# Altium footprint library Altera.PcbLib: 4 footprints (part 2 of 4)
Each footprint in its own frame and in the unit in brackets; x right, y up, seen from the top. Pads: shape width x height; smd on the part's side, far side on the other; paste and mask are expansions set on the pad; w line width, h text height; cw(c..) or ccw(c..) is an arc to the next point about the centre after c.
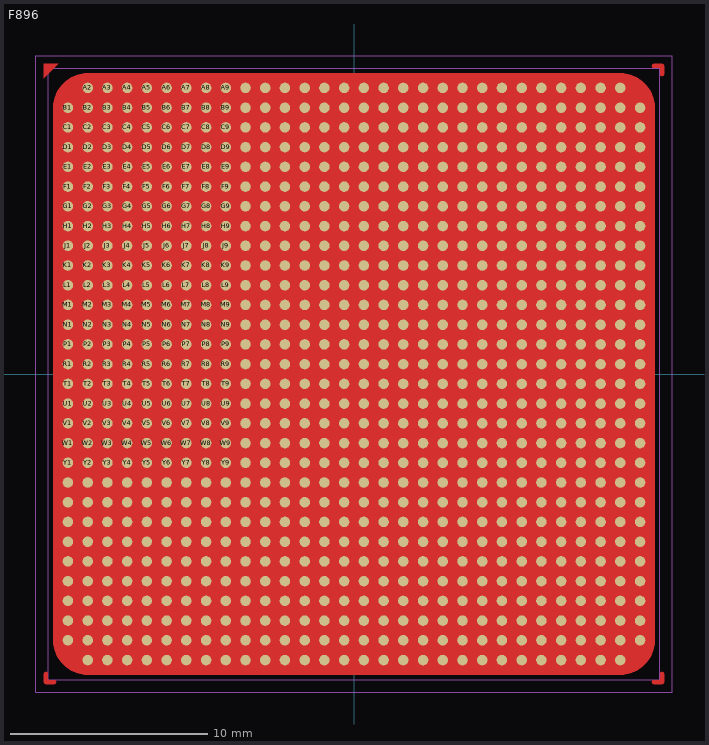
[diagram p1: the footprint, top view; thin cyan lines are the x and y axes]

## F896 [mil]
pads (896):
  round 21 smd mask+2: A2(-531.5,570.87) A3(-492.13,570.87) A4(-452.76,570.87) A5(-413.39,570.87) A6(-374.02,570.87) A7(-334.65,570.87) A8(-295.28,570.87) A9(-255.91,570.87) A10(-216.54,570.87) A11(-177.17,570.87) A12(-137.8,570.87) A13(-98.43,570.87) A14(-59.06,570.87) A15(-19.68,570.87) A16(19.69,570.87) A17(59.06,570.87) A18(98.43,570.87) A19(137.8,570.87) A20(177.17,570.87) A21(216.54,570.87) A22(255.91,570.87) A23(295.28,570.87) A24(334.65,570.87) A25(374.02,570.87) A26(413.39,570.87) A27(452.76,570.87) A28(492.13,570.87) A29(531.5,570.87) AA1(-570.87,-216.54) AA2(-531.5,-216.54) AA3(-492.13,-216.54) AA4(-452.76,-216.54) AA5(-413.39,-216.54) AA6(-374.02,-216.54) AA7(-334.65,-216.54) AA8(-295.28,-216.54) AA9(-255.91,-216.54) AA10(-216.54,-216.54) AA11(-177.17,-216.54) AA12(-137.8,-216.54) AA13(-98.43,-216.54) AA14(-59.06,-216.54) AA15(-19.68,-216.54) AA16(19.69,-216.54) AA17(59.06,-216.54) AA18(98.43,-216.54) AA19(137.8,-216.54) AA20(177.17,-216.54) AA21(216.54,-216.54) AA22(255.91,-216.54) AA23(295.28,-216.54) AA24(334.65,-216.54) AA25(374.02,-216.54) AA26(413.39,-216.54) AA27(452.76,-216.54) AA28(492.13,-216.54) AA29(531.5,-216.54) AA30(570.87,-216.54) AB1(-570.87,-255.91) AB2(-531.5,-255.91) AB3(-492.13,-255.91) AB4(-452.76,-255.91) AB5(-413.39,-255.91) AB6(-374.02,-255.91) AB7(-334.65,-255.91) AB8(-295.28,-255.91) AB9(-255.91,-255.91) AB10(-216.54,-255.91) AB11(-177.17,-255.91) AB12(-137.8,-255.91) AB13(-98.43,-255.91) AB14(-59.06,-255.91) AB15(-19.68,-255.91) AB16(19.69,-255.91) AB17(59.06,-255.91) AB18(98.43,-255.91) AB19(137.8,-255.91) AB20(177.17,-255.91) AB21(216.54,-255.91) AB22(255.91,-255.91) AB23(295.28,-255.91) AB24(334.65,-255.91) AB25(374.02,-255.91) AB26(413.39,-255.91) AB27(452.76,-255.91) AB28(492.13,-255.91) AB29(531.5,-255.91) AB30(570.87,-255.91) AC1(-570.87,-295.28) AC2(-531.5,-295.28) AC3(-492.13,-295.28) AC4(-452.76,-295.28) AC5(-413.39,-295.28) AC6(-374.02,-295.28) AC7(-334.65,-295.28) AC8(-295.28,-295.28) AC9(-255.91,-295.28) AC10(-216.54,-295.28) AC11(-177.17,-295.28) AC12(-137.8,-295.28) AC13(-98.43,-295.28) AC14(-59.06,-295.28) AC15(-19.68,-295.28) AC16(19.69,-295.28) AC17(59.06,-295.28) AC18(98.43,-295.28) AC19(137.8,-295.28) AC20(177.17,-295.28) AC21(216.54,-295.28) AC22(255.91,-295.28) AC23(295.28,-295.28) AC24(334.65,-295.28) AC25(374.02,-295.28) AC26(413.39,-295.28) AC27(452.76,-295.28) AC28(492.13,-295.28) AC29(531.5,-295.28) AC30(570.87,-295.28) AD1(-570.87,-334.65) AD2(-531.5,-334.65) AD3(-492.13,-334.65) AD4(-452.76,-334.65) AD5(-413.39,-334.65) AD6(-374.02,-334.65) AD7(-334.65,-334.65) AD8(-295.28,-334.65) AD9(-255.91,-334.65) AD10(-216.54,-334.65) AD11(-177.17,-334.65) AD12(-137.8,-334.65) AD13(-98.43,-334.65) AD14(-59.06,-334.65) AD15(-19.68,-334.65) AD16(19.69,-334.65) AD17(59.06,-334.65) AD18(98.43,-334.65) AD19(137.8,-334.65) AD20(177.17,-334.65) AD21(216.54,-334.65) AD22(255.91,-334.65) AD23(295.28,-334.65) AD24(334.65,-334.65) AD25(374.02,-334.65) AD26(413.39,-334.65) AD27(452.76,-334.65) AD28(492.13,-334.65) AD29(531.5,-334.65) AD30(570.87,-334.65) AE1(-570.87,-374.02) AE2(-531.5,-374.02) AE3(-492.13,-374.02) AE4(-452.76,-374.02) AE5(-413.39,-374.02) AE6(-374.02,-374.02) AE7(-334.65,-374.02) AE8(-295.28,-374.02) AE9(-255.91,-374.02) AE10(-216.54,-374.02) AE11(-177.17,-374.02) AE12(-137.8,-374.02) AE13(-98.43,-374.02) AE14(-59.06,-374.02) AE15(-19.68,-374.02) AE16(19.69,-374.02) AE17(59.06,-374.02) AE18(98.43,-374.02) AE19(137.8,-374.02) AE20(177.17,-374.02) AE21(216.54,-374.02) AE22(255.91,-374.02) AE23(295.28,-374.02) AE24(334.65,-374.02) AE25(374.02,-374.02) AE26(413.39,-374.02) AE27(452.76,-374.02) AE28(492.13,-374.02) AE29(531.5,-374.02) AE30(570.87,-374.02) AF1(-570.87,-413.39) AF2(-531.5,-413.39) AF3(-492.13,-413.39) AF4(-452.76,-413.39) AF5(-413.39,-413.39) AF6(-374.02,-413.39) AF7(-334.65,-413.39) AF8(-295.28,-413.39) AF9(-255.91,-413.39) AF10(-216.54,-413.39) AF11(-177.17,-413.39) AF12(-137.8,-413.39) AF13(-98.43,-413.39) AF14(-59.06,-413.39) AF15(-19.68,-413.39) AF16(19.69,-413.39) AF17(59.06,-413.39) AF18(98.43,-413.39) AF19(137.8,-413.39) AF20(177.17,-413.39) AF21(216.54,-413.39) AF22(255.91,-413.39) AF23(295.28,-413.39) AF24(334.65,-413.39) AF25(374.02,-413.39) AF26(413.39,-413.39) AF27(452.76,-413.39) AF28(492.13,-413.39) AF29(531.5,-413.39) AF30(570.87,-413.39) AG1(-570.87,-452.76) AG2(-531.5,-452.76) AG3(-492.13,-452.76) AG4(-452.76,-452.76) AG5(-413.39,-452.76) AG6(-374.02,-452.76) AG7(-334.65,-452.76) AG8(-295.28,-452.76) AG9(-255.91,-452.76) AG10(-216.54,-452.76) AG11(-177.17,-452.76) AG12(-137.8,-452.76) AG13(-98.43,-452.76) AG14(-59.06,-452.76) AG15(-19.68,-452.76) AG16(19.69,-452.76) AG17(59.06,-452.76) AG18(98.43,-452.76) AG19(137.8,-452.76) AG20(177.17,-452.76) AG21(216.54,-452.76) AG22(255.91,-452.76) AG23(295.28,-452.76) AG24(334.65,-452.76) AG25(374.02,-452.76) AG26(413.39,-452.76) AG27(452.76,-452.76) AG28(492.13,-452.76) AG29(531.5,-452.76) AG30(570.87,-452.76) AH1(-570.87,-492.13) AH2(-531.5,-492.13) AH3(-492.13,-492.13) AH4(-452.76,-492.13) AH5(-413.39,-492.13) AH6(-374.02,-492.13) AH7(-334.65,-492.13) AH8(-295.28,-492.13) AH9(-255.91,-492.13) AH10(-216.54,-492.13) AH11(-177.17,-492.13) AH12(-137.8,-492.13) AH13(-98.43,-492.13) AH14(-59.06,-492.13) AH15(-19.68,-492.13) AH16(19.69,-492.13) AH17(59.06,-492.13) AH18(98.43,-492.13) AH19(137.8,-492.13) AH20(177.17,-492.13) AH21(216.54,-492.13) AH22(255.91,-492.13) AH23(295.28,-492.13) AH24(334.65,-492.13) AH25(374.02,-492.13) AH26(413.39,-492.13) AH27(452.76,-492.13) AH28(492.13,-492.13) AH29(531.5,-492.13) AH30(570.87,-492.13) AJ1(-570.87,-531.5) AJ2(-531.5,-531.5) AJ3(-492.13,-531.5) AJ4(-452.76,-531.5) AJ5(-413.39,-531.5) AJ6(-374.02,-531.5) AJ7(-334.65,-531.5) AJ8(-295.28,-531.5) AJ9(-255.91,-531.5) AJ10(-216.54,-531.5) AJ11(-177.17,-531.5) AJ12(-137.8,-531.5) AJ13(-98.43,-531.5) AJ14(-59.06,-531.5) AJ15(-19.68,-531.5) AJ16(19.69,-531.5) AJ17(59.06,-531.5) AJ18(98.43,-531.5) AJ19(137.8,-531.5) AJ20(177.17,-531.5) AJ21(216.54,-531.5) AJ22(255.91,-531.5) AJ23(295.28,-531.5) AJ24(334.65,-531.5) AJ25(374.02,-531.5) AJ26(413.39,-531.5) AJ27(452.76,-531.5) AJ28(492.13,-531.5) AJ29(531.5,-531.5) AJ30(570.87,-531.5) AK2(-531.5,-570.87) AK3(-492.13,-570.87) AK4(-452.76,-570.87) AK5(-413.39,-570.87) AK6(-374.02,-570.87) AK7(-334.65,-570.87) AK8(-295.28,-570.87) AK9(-255.91,-570.87) AK10(-216.54,-570.87) AK11(-177.17,-570.87) AK12(-137.8,-570.87) AK13(-98.43,-570.87) AK14(-59.06,-570.87) AK15(-19.68,-570.87) AK16(19.69,-570.87) AK17(59.06,-570.87) AK18(98.43,-570.87) AK19(137.8,-570.87) AK20(177.17,-570.87) AK21(216.54,-570.87) AK22(255.91,-570.87) AK23(295.28,-570.87) AK24(334.65,-570.87) AK25(374.02,-570.87) AK26(413.39,-570.87) AK27(452.76,-570.87) AK28(492.13,-570.87) AK29(531.5,-570.87) B1(-570.87,531.5) B2(-531.5,531.5) B3(-492.13,531.5) B4(-452.76,531.5) B5(-413.39,531.5) B6(-374.02,531.5) B7(-334.65,531.5) B8(-295.28,531.5) B9(-255.91,531.5) B10(-216.54,531.5) B11(-177.17,531.5) B12(-137.8,531.5) B13(-98.43,531.5) B14(-59.06,531.5) B15(-19.68,531.5) B16(19.69,531.5) B17(59.06,531.5) B18(98.43,531.5) B19(137.8,531.5) B20(177.17,531.5) B21(216.54,531.5) B22(255.91,531.5) B23(295.28,531.5) B24(334.65,531.5) B25(374.02,531.5) B26(413.39,531.5) B27(452.76,531.5) B28(492.13,531.5) B29(531.5,531.5) B30(570.87,531.5) C1(-570.87,492.13) C2(-531.5,492.13) C3(-492.13,492.13) C4(-452.76,492.13) C5(-413.39,492.13) C6(-374.02,492.13) C7(-334.65,492.13) C8(-295.28,492.13) C9(-255.91,492.13) C10(-216.54,492.13) C11(-177.17,492.13) C12(-137.8,492.13) C13(-98.43,492.13) C14(-59.06,492.13) C15(-19.68,492.13) C16(19.69,492.13) C17(59.06,492.13) C18(98.43,492.13) C19(137.8,492.13) C20(177.17,492.13) C21(216.54,492.13) C22(255.91,492.13) C23(295.28,492.13) C24(334.65,492.13) C25(374.02,492.13) C26(413.39,492.13) C27(452.76,492.13) C28(492.13,492.13) C29(531.5,492.13) C30(570.87,492.13) D1(-570.87,452.76) D2(-531.5,452.76) D3(-492.13,452.76) D4(-452.76,452.76) D5(-413.39,452.76) D6(-374.02,452.76) D7(-334.65,452.76) D8(-295.28,452.76) D9(-255.91,452.76) D10(-216.54,452.76) D11(-177.17,452.76) D12(-137.8,452.76) D13(-98.43,452.76) D14(-59.06,452.76) D15(-19.68,452.76) D16(19.69,452.76) D17(59.06,452.76) D18(98.43,452.76) D19(137.8,452.76) D20(177.17,452.76) D21(216.54,452.76) D22(255.91,452.76) D23(295.28,452.76) D24(334.65,452.76) D25(374.02,452.76) D26(413.39,452.76) D27(452.76,452.76) D28(492.13,452.76) D29(531.5,452.76) D30(570.87,452.76) E1(-570.87,413.39) E2(-531.5,413.39) E3(-492.13,413.39) E4(-452.76,413.39) E5(-413.39,413.39) E6(-374.02,413.39) E7(-334.65,413.39) E8(-295.28,413.39) E9(-255.91,413.39) E10(-216.54,413.39) E11(-177.17,413.39) E12(-137.8,413.39) E13(-98.43,413.39) E14(-59.06,413.39) E15(-19.68,413.39) E16(19.69,413.39) E17(59.06,413.39) E18(98.43,413.39) E19(137.8,413.39) E20(177.17,413.39) E21(216.54,413.39) E22(255.91,413.39) E23(295.28,413.39) E24(334.65,413.39) E25(374.02,413.39) E26(413.39,413.39) E27(452.76,413.39) E28(492.13,413.39) E29(531.5,413.39) E30(570.87,413.39) F1(-570.87,374.02) F2(-531.5,374.02) F3(-492.13,374.02) F4(-452.76,374.02) F5(-413.39,374.02) F6(-374.02,374.02) F7(-334.65,374.02) F8(-295.28,374.02) F9(-255.91,374.02) F10(-216.54,374.02) F11(-177.17,374.02) F12(-137.8,374.02) F13(-98.43,374.02) F14(-59.06,374.02) F15(-19.68,374.02) F16(19.69,374.02) F17(59.06,374.02) F18(98.43,374.02) F19(137.8,374.02) F20(177.17,374.02) F21(216.54,374.02) F22(255.91,374.02) F23(295.28,374.02) F24(334.65,374.02) F25(374.02,374.02) F26(413.39,374.02) F27(452.76,374.02) F28(492.13,374.02) F29(531.5,374.02) F30(570.87,374.02) G1(-570.87,334.65) G2(-531.5,334.65) G3(-492.13,334.65) G4(-452.76,334.65) G5(-413.39,334.65) G6(-374.02,334.65) G7(-334.65,334.65) G8(-295.28,334.65) G9(-255.91,334.65) G10(-216.54,334.65) G11(-177.17,334.65) G12(-137.8,334.65) G13(-98.43,334.65) G14(-59.06,334.65) G15(-19.68,334.65) G16(19.69,334.65) G17(59.06,334.65) G18(98.43,334.65) G19(137.8,334.65) G20(177.17,334.65) G21(216.54,334.65) G22(255.91,334.65) G23(295.28,334.65) G24(334.65,334.65) G25(374.02,334.65) G26(413.39,334.65) G27(452.76,334.65) G28(492.13,334.65) G29(531.5,334.65) G30(570.87,334.65) H1(-570.87,295.28) H2(-531.5,295.28) H3(-492.13,295.28) H4(-452.76,295.28) H5(-413.39,295.28) H6(-374.02,295.28) H7(-334.65,295.28) H8(-295.28,295.28) H9(-255.91,295.28) H10(-216.54,295.28) H11(-177.17,295.28) H12(-137.8,295.28) H13(-98.43,295.28) H14(-59.06,295.28) H15(-19.68,295.28) H16(19.69,295.28) H17(59.06,295.28) H18(98.43,295.28) H19(137.8,295.28) H20(177.17,295.28) H21(216.54,295.28) H22(255.91,295.28) H23(295.28,295.28) H24(334.65,295.28) H25(374.02,295.28) H26(413.39,295.28) H27(452.76,295.28) H28(492.13,295.28) H29(531.5,295.28) H30(570.87,295.28) J1(-570.87,255.91) J2(-531.5,255.91) J3(-492.13,255.91) J4(-452.76,255.91) J5(-413.39,255.91) J6(-374.02,255.91) J7(-334.65,255.91) J8(-295.28,255.91) J9(-255.91,255.91) J10(-216.54,255.91) J11(-177.17,255.91) J12(-137.8,255.91) J13(-98.43,255.91) J14(-59.06,255.91) J15(-19.68,255.91) J16(19.69,255.91) J17(59.06,255.91) J18(98.43,255.91) J19(137.8,255.91) J20(177.17,255.91) J21(216.54,255.91) J22(255.91,255.91) J23(295.28,255.91) J24(334.65,255.91) J25(374.02,255.91) J26(413.39,255.91) J27(452.76,255.91) J28(492.13,255.91) J29(531.5,255.91) J30(570.87,255.91) K1(-570.87,216.54) K2(-531.5,216.54) K3(-492.13,216.54) K4(-452.76,216.54) K5(-413.39,216.54) K6(-374.02,216.54) K7(-334.65,216.54) K8(-295.28,216.54) K9(-255.91,216.54) K10(-216.54,216.54) K11(-177.17,216.54) K12(-137.8,216.54) K13(-98.43,216.54) K14(-59.06,216.54) K15(-19.68,216.54) K16(19.69,216.54) K17(59.06,216.54) K18(98.43,216.54) K19(137.8,216.54) K20(177.17,216.54) K21(216.54,216.54) K22(255.91,216.54) K23(295.28,216.54) K24(334.65,216.54) K25(374.02,216.54) K26(413.39,216.54) K27(452.76,216.54) K28(492.13,216.54) K29(531.5,216.54) K30(570.87,216.54) L1(-570.87,177.17) L2(-531.5,177.17) L3(-492.13,177.17) L4(-452.76,177.17) L5(-413.39,177.17) L6(-374.02,177.17) L7(-334.65,177.17) L8(-295.28,177.17) L9(-255.91,177.17) L10(-216.54,177.17) L11(-177.17,177.17) L12(-137.8,177.17) L13(-98.43,177.17) L14(-59.06,177.17) L15(-19.68,177.17) L16(19.69,177.17) L17(59.06,177.17) L18(98.43,177.17) L19(137.8,177.17) L20(177.17,177.17) L21(216.54,177.17) L22(255.91,177.17) L23(295.28,177.17) L24(334.65,177.17) L25(374.02,177.17) L26(413.39,177.17) L27(452.76,177.17) L28(492.13,177.17) L29(531.5,177.17) L30(570.87,177.17) M1(-570.87,137.8) M2(-531.5,137.8) M3(-492.13,137.8) M4(-452.76,137.8) M5(-413.39,137.8) M6(-374.02,137.8) M7(-334.65,137.8) M8(-295.28,137.8) M9(-255.91,137.8) M10(-216.54,137.8) M11(-177.17,137.8) M12(-137.8,137.8) M13(-98.43,137.8) M14(-59.06,137.8) M15(-19.68,137.8) M16(19.69,137.8) M17(59.06,137.8) M18(98.43,137.8) M19(137.8,137.8) M20(177.17,137.8) M21(216.54,137.8) M22(255.91,137.8) M23(295.28,137.8) M24(334.65,137.8) M25(374.02,137.8) M26(413.39,137.8) M27(452.76,137.8) M28(492.13,137.8) M29(531.5,137.8) M30(570.87,137.8) N1(-570.87,98.43) N2(-531.5,98.43) N3(-492.13,98.43) N4(-452.76,98.43) N5(-413.39,98.43) N6(-374.02,98.43) N7(-334.65,98.43) N8(-295.28,98.43) N9(-255.91,98.43) N10(-216.54,98.43) N11(-177.17,98.43) N12(-137.8,98.43) N13(-98.43,98.43) N14(-59.06,98.43) N15(-19.68,98.43) N16(19.69,98.43) N17(59.06,98.43) N18(98.43,98.43) N19(137.8,98.43) N20(177.17,98.43) N21(216.54,98.43) N22(255.91,98.43) N23(295.28,98.43) N24(334.65,98.43) N25(374.02,98.43) N26(413.39,98.43) N27(452.76,98.43) N28(492.13,98.43) N29(531.5,98.43) N30(570.87,98.43) P1(-570.87,59.06) P2(-531.5,59.06) P3(-492.13,59.06) P4(-452.76,59.06) P5(-413.39,59.06) P6(-374.02,59.06) P7(-334.65,59.06) P8(-295.28,59.06) P9(-255.91,59.06) P10(-216.54,59.06) P11(-177.17,59.06) P12(-137.8,59.06) P13(-98.43,59.06) P14(-59.06,59.06) P15(-19.68,59.06) P16(19.69,59.06) P17(59.06,59.06) P18(98.43,59.06) P19(137.8,59.06) P20(177.17,59.06) P21(216.54,59.06) P22(255.91,59.06) P23(295.28,59.06) P24(334.65,59.06) P25(374.02,59.06) P26(413.39,59.06) P27(452.76,59.06) P28(492.13,59.06) P29(531.5,59.06) P30(570.87,59.06) R1(-570.87,19.69) R2(-531.5,19.69) R3(-492.13,19.69) R4(-452.76,19.69) R5(-413.39,19.69) R6(-374.02,19.69) R7(-334.65,19.69) R8(-295.28,19.69) R9(-255.91,19.69) R10(-216.54,19.69) R11(-177.17,19.69) R12(-137.8,19.69) R13(-98.43,19.69) R14(-59.06,19.69) R15(-19.68,19.69) R16(19.69,19.69) R17(59.06,19.69) R18(98.43,19.69) R19(137.8,19.69) R20(177.17,19.69) R21(216.54,19.69) R22(255.91,19.69) R23(295.28,19.69) R24(334.65,19.69) R25(374.02,19.69) R26(413.39,19.69) R27(452.76,19.69) R28(492.13,19.69) R29(531.5,19.69) R30(570.87,19.69) T1(-570.87,-19.68) T2(-531.5,-19.68) T3(-492.13,-19.68) T4(-452.76,-19.68) T5(-413.39,-19.68) T6(-374.02,-19.68) T7(-334.65,-19.68) T8(-295.28,-19.68) T9(-255.91,-19.68) T10(-216.54,-19.68) T11(-177.17,-19.68) T12(-137.8,-19.68) T13(-98.43,-19.68) T14(-59.06,-19.68) T15(-19.68,-19.68) T16(19.69,-19.68) T17(59.06,-19.68) T18(98.43,-19.68) T19(137.8,-19.68) T20(177.17,-19.68) T21(216.54,-19.68) T22(255.91,-19.68) T23(295.28,-19.68) T24(334.65,-19.68) T25(374.02,-19.68) T26(413.39,-19.68) T27(452.76,-19.68) T28(492.13,-19.68) T29(531.5,-19.68) T30(570.87,-19.68) U1(-570.87,-59.06) U2(-531.5,-59.06) U3(-492.13,-59.06) U4(-452.76,-59.06) U5(-413.39,-59.06) U6(-374.02,-59.06) U7(-334.65,-59.06) U8(-295.28,-59.06) U9(-255.91,-59.06) U10(-216.54,-59.06) U11(-177.17,-59.06) U12(-137.8,-59.06) U13(-98.43,-59.06) U14(-59.06,-59.06) U15(-19.68,-59.06) U16(19.69,-59.06) U17(59.06,-59.06) U18(98.43,-59.06) U19(137.8,-59.06) U20(177.17,-59.06) U21(216.54,-59.06) U22(255.91,-59.06) U23(295.28,-59.06) U24(334.65,-59.06) U25(374.02,-59.06) U26(413.39,-59.06) U27(452.76,-59.06) U28(492.13,-59.06) U29(531.5,-59.06) U30(570.87,-59.06) V1(-570.87,-98.43) V2(-531.5,-98.43) V3(-492.13,-98.43) V4(-452.76,-98.43) V5(-413.39,-98.43) V6(-374.02,-98.43) V7(-334.65,-98.43) V8(-295.28,-98.43) V9(-255.91,-98.43) V10(-216.54,-98.43) V11(-177.17,-98.43) V12(-137.8,-98.43) V13(-98.43,-98.43) V14(-59.06,-98.43) V15(-19.68,-98.43) V16(19.69,-98.43) V17(59.06,-98.43) V18(98.43,-98.43) V19(137.8,-98.43) V20(177.17,-98.43) V21(216.54,-98.43) V22(255.91,-98.43) V23(295.28,-98.43) V24(334.65,-98.43) V25(374.02,-98.43) V26(413.39,-98.43) V27(452.76,-98.43) V28(492.13,-98.43) V29(531.5,-98.43) V30(570.87,-98.43) W1(-570.87,-137.8) W2(-531.5,-137.8) W3(-492.13,-137.8) W4(-452.76,-137.8) W5(-413.39,-137.8) W6(-374.02,-137.8) W7(-334.65,-137.8) W8(-295.28,-137.8) W9(-255.91,-137.8) W10(-216.54,-137.8) W11(-177.17,-137.8) W12(-137.8,-137.8) W13(-98.43,-137.8) W14(-59.06,-137.8) W15(-19.68,-137.8) W16(19.69,-137.8) W17(59.06,-137.8) W18(98.43,-137.8) W19(137.8,-137.8) W20(177.17,-137.8) W21(216.54,-137.8) W22(255.91,-137.8) W23(295.28,-137.8) W24(334.65,-137.8) W25(374.02,-137.8) W26(413.39,-137.8) W27(452.76,-137.8) W28(492.13,-137.8) W29(531.5,-137.8) W30(570.87,-137.8) Y1(-570.87,-177.17) Y2(-531.5,-177.17) Y3(-492.13,-177.17) Y4(-452.76,-177.17) Y5(-413.39,-177.17) Y6(-374.02,-177.17) Y7(-334.65,-177.17) Y8(-295.28,-177.17) Y9(-255.91,-177.17) Y10(-216.54,-177.17) Y11(-177.17,-177.17) Y12(-137.8,-177.17) Y13(-98.43,-177.17) Y14(-59.06,-177.17) Y15(-19.68,-177.17) Y16(19.69,-177.17) Y17(59.06,-177.17) Y18(98.43,-177.17) Y19(137.8,-177.17) Y20(177.17,-177.17) Y21(216.54,-177.17) Y22(255.91,-177.17) Y23(295.28,-177.17) Y24(334.65,-177.17) Y25(374.02,-177.17) Y26(413.39,-177.17) Y27(452.76,-177.17) Y28(492.13,-177.17) Y29(531.5,-177.17) Y30(570.87,-177.17)
Top Layer:
  pour cut-out: -531.5,600 -538.24,600 -551.48,597.37 -563.94,592.2 -575.16,584.71 -584.71,575.16 -592.2,563.94 -597.37,551.48 -600,538.24 -600,531.5 -600,-531.5 -600,-538.24 -597.37,-551.48 -592.2,-563.94 -584.71,-575.16 -575.16,-584.71 -563.94,-592.2 -551.48,-597.37 -538.24,-600 -531.5,-600 531.5,-600 538.24,-600 551.48,-597.37 563.94,-592.2 575.16,-584.71 584.71,-575.16 592.2,-563.94 597.37,-551.48 600,-538.24 600,-531.5 600,531.5 600,538.24 597.37,551.48 592.2,563.94 584.71,575.16 575.16,584.71 563.94,592.2 551.48,597.37 538.24,600 531.5,600
  region: -618.7,618.7 -618.7,590.16 -590.16,618.7
  region: 610.7,598.7 610.7,597.91 611.31,596.43 612.43,595.31 613.9,594.7 614.7,594.7 615.5,594.7 616.97,595.31 618.09,596.43 618.7,597.91 618.7,598.7 618.7,614.7 618.7,615.5 618.09,616.97 616.97,618.09 615.5,618.7 614.7,618.7 598.7,618.7 597.9,618.7 596.43,618.09 595.31,616.97 594.7,615.5 594.7,614.7 594.7,613.91 595.31,612.43 596.43,611.31 597.9,610.7 598.7,610.7 608.7,610.7 609.09,610.66 609.81,610.36 610.36,609.81 610.66,609.09 610.7,608.7
  region: 598.7,-610.7 597.91,-610.7 596.43,-611.31 595.31,-612.43 594.7,-613.9 594.7,-614.7 594.7,-615.5 595.31,-616.97 596.43,-618.09 597.91,-618.7 598.7,-618.7 614.7,-618.7 615.5,-618.7 616.97,-618.09 618.09,-616.97 618.7,-615.5 618.7,-614.7 618.7,-598.7 618.7,-597.9 618.09,-596.43 616.97,-595.31 615.5,-594.7 614.7,-594.7 613.91,-594.7 612.43,-595.31 611.31,-596.43 610.7,-597.9 610.7,-598.7 610.7,-608.7 610.66,-609.09 610.36,-609.81 609.81,-610.36 609.09,-610.66 608.7,-610.7
  region: -610.7,-598.7 -610.7,-597.91 -611.31,-596.43 -612.43,-595.31 -613.9,-594.7 -614.7,-594.7 -615.5,-594.7 -616.97,-595.31 -618.09,-596.43 -618.7,-597.91 -618.7,-598.7 -618.7,-614.7 -618.7,-615.5 -618.09,-616.97 -616.97,-618.09 -615.5,-618.7 -614.7,-618.7 -598.7,-618.7 -597.9,-618.7 -596.43,-618.09 -595.31,-616.97 -594.7,-615.5 -594.7,-614.7 -594.7,-613.91 -595.31,-612.43 -596.43,-611.31 -597.9,-610.7 -598.7,-610.7 -608.7,-610.7 -609.09,-610.66 -609.81,-610.36 -610.36,-609.81 -610.66,-609.09 -610.7,-608.7
Top Component Outline:
  lines w1: -635,-635 635,-635 635,635 -635,635 -635,-635
Top 3D Body (Mech16):
  lines w1: -543.22,582.68 -543.22,582.67 ; -543.22,582.67 543.22,582.68 582.59,543.31 582.59,-543.31 543.22,-582.68 -543.22,-582.68 -582.59,-543.31 -582.59,543.3 -543.22,582.67 ; -610.24,-610.24 610.24,-610.24 610.24,610.24 -610.24,610.24 -610.24,-610.24
3D body: height 40, standoff 35, extent -600,570 -570,600
3D body: height 21.81, standoff -1.81, extent -267.63,-582.68 -244.18,-559.06
3D body: height 21.81, standoff -1.81, extent -307,-582.68 -283.55,-559.06
3D body: height 21.81, standoff -1.81, extent -346.37,-582.68 -322.92,-559.06
3D body: height 21.81, standoff -1.81, extent -385.74,-582.68 -362.29,-559.06
3D body: height 21.81, standoff -1.81, extent -425.11,-582.68 -401.66,-559.06
3D body: height 21.81, standoff -1.81, extent -464.48,-582.68 -441.03,-559.06
3D body: height 21.81, standoff -1.81, extent -503.85,-582.68 -480.4,-559.06
3D body: height 21.81, standoff -1.81, extent -543.22,-582.68 -519.77,-559.06
3D body: height 21.81, standoff -1.81, extent 86.7,-582.68 110.15,-559.06
3D body: height 21.81, standoff -1.81, extent 47.33,-582.68 70.78,-559.06
3D body: height 21.81, standoff -1.81, extent 7.96,-582.68 31.41,-559.06
3D body: height 21.81, standoff -1.81, extent -31.41,-582.68 -7.96,-559.06
3D body: height 21.81, standoff -1.81, extent -70.78,-582.68 -47.33,-559.06
3D body: height 21.81, standoff -1.81, extent -110.15,-582.68 -86.7,-559.06
3D body: height 21.81, standoff -1.81, extent -149.52,-582.68 -126.07,-559.06
3D body: height 21.81, standoff -1.81, extent -188.89,-582.68 -165.44,-559.06
3D body: height 21.81, standoff -1.81, extent -228.26,-582.68 -204.81,-559.06
3D body: height 21.81, standoff -1.81, extent 441.03,-582.68 464.48,-559.06
3D body: height 21.81, standoff -1.81, extent 401.66,-582.68 425.11,-559.06
3D body: height 21.81, standoff -1.81, extent 362.29,-582.68 385.74,-559.06
3D body: height 21.81, standoff -1.81, extent 322.92,-582.68 346.37,-559.06
3D body: height 21.81, standoff -1.81, extent 283.55,-582.68 307,-559.06
3D body: height 21.81, standoff -1.81, extent 244.18,-582.68 267.63,-559.06
3D body: height 21.81, standoff -1.81, extent 204.81,-582.68 228.26,-559.06
3D body: height 21.81, standoff -1.81, extent 165.44,-582.68 188.89,-559.06
3D body: height 21.81, standoff -1.81, extent 126.07,-582.68 149.52,-559.06
3D body: height 21.81, standoff -1.81, extent 519.77,-582.68 543.22,-559.06
3D body: height 21.81, standoff -1.81, extent 480.4,-582.68 503.85,-559.06
3D body: height 21.81, standoff -1.81, extent -267.63,-543.31 -244.18,-519.69
3D body: height 21.81, standoff -1.81, extent -307,-543.31 -283.55,-519.69
3D body: height 21.81, standoff -1.81, extent -346.37,-543.31 -322.92,-519.69
3D body: height 21.81, standoff -1.81, extent -385.74,-543.31 -362.29,-519.69
3D body: height 21.81, standoff -1.81, extent -425.11,-543.31 -401.66,-519.69
3D body: height 21.81, standoff -1.81, extent -464.48,-543.31 -441.03,-519.69
3D body: height 21.81, standoff -1.81, extent -503.85,-543.31 -480.4,-519.69
3D body: height 21.81, standoff -1.81, extent -543.22,-543.31 -519.77,-519.69
3D body: height 21.81, standoff -1.81, extent -582.59,-543.31 -559.14,-519.69
3D body: height 21.81, standoff -1.81, extent 86.7,-543.31 110.15,-519.69
3D body: height 21.81, standoff -1.81, extent 47.33,-543.31 70.78,-519.69
3D body: height 21.81, standoff -1.81, extent 7.96,-543.31 31.41,-519.69
3D body: height 21.81, standoff -1.81, extent -31.41,-543.31 -7.96,-519.69
3D body: height 21.81, standoff -1.81, extent -70.78,-543.31 -47.33,-519.69
3D body: height 21.81, standoff -1.81, extent -110.15,-543.31 -86.7,-519.69
3D body: height 21.81, standoff -1.81, extent -149.52,-543.31 -126.07,-519.69
3D body: height 21.81, standoff -1.81, extent -188.89,-543.31 -165.44,-519.69
3D body: height 21.81, standoff -1.81, extent -228.26,-543.31 -204.81,-519.69
3D body: height 21.81, standoff -1.81, extent 441.03,-543.31 464.48,-519.69
3D body: height 21.81, standoff -1.81, extent 401.66,-543.31 425.11,-519.69
3D body: height 21.81, standoff -1.81, extent 362.29,-543.31 385.74,-519.69
3D body: height 21.81, standoff -1.81, extent 322.92,-543.31 346.37,-519.69
3D body: height 21.81, standoff -1.81, extent 283.55,-543.31 307,-519.69
3D body: height 21.81, standoff -1.81, extent 244.18,-543.31 267.63,-519.69
3D body: height 21.81, standoff -1.81, extent 204.81,-543.31 228.26,-519.69
3D body: height 21.81, standoff -1.81, extent 165.44,-543.31 188.89,-519.69
3D body: height 21.81, standoff -1.81, extent 126.07,-543.31 149.52,-519.69
3D body: height 21.81, standoff -1.81, extent 559.14,-543.31 582.59,-519.69
3D body: height 21.81, standoff -1.81, extent 519.77,-543.31 543.22,-519.69
3D body: height 21.81, standoff -1.81, extent 480.4,-543.31 503.85,-519.69
3D body: height 21.81, standoff -1.81, extent -267.63,-503.94 -244.18,-480.32
3D body: height 21.81, standoff -1.81, extent -307,-503.94 -283.55,-480.32
3D body: height 21.81, standoff -1.81, extent -346.37,-503.94 -322.92,-480.32
3D body: height 21.81, standoff -1.81, extent -385.74,-503.94 -362.29,-480.32
3D body: height 21.81, standoff -1.81, extent -425.11,-503.94 -401.66,-480.32
3D body: height 21.81, standoff -1.81, extent -464.48,-503.94 -441.03,-480.32
3D body: height 21.81, standoff -1.81, extent -503.85,-503.94 -480.4,-480.32
3D body: height 21.81, standoff -1.81, extent -543.22,-503.94 -519.77,-480.32
3D body: height 21.81, standoff -1.81, extent -582.59,-503.94 -559.14,-480.32
3D body: height 21.81, standoff -1.81, extent 86.7,-503.94 110.15,-480.32
3D body: height 21.81, standoff -1.81, extent 47.33,-503.94 70.78,-480.32
3D body: height 21.81, standoff -1.81, extent 7.96,-503.94 31.41,-480.32
3D body: height 21.81, standoff -1.81, extent -31.41,-503.94 -7.96,-480.32
3D body: height 21.81, standoff -1.81, extent -70.78,-503.94 -47.33,-480.32
3D body: height 21.81, standoff -1.81, extent -110.15,-503.94 -86.7,-480.32
3D body: height 21.81, standoff -1.81, extent -149.52,-503.94 -126.07,-480.32
3D body: height 21.81, standoff -1.81, extent -188.89,-503.94 -165.44,-480.32
3D body: height 21.81, standoff -1.81, extent -228.26,-503.94 -204.81,-480.32
3D body: height 21.81, standoff -1.81, extent 441.03,-503.94 464.48,-480.32
3D body: height 21.81, standoff -1.81, extent 401.66,-503.94 425.11,-480.32
3D body: height 21.81, standoff -1.81, extent 362.29,-503.94 385.74,-480.32
3D body: height 21.81, standoff -1.81, extent 322.92,-503.94 346.37,-480.32
3D body: height 21.81, standoff -1.81, extent 283.55,-503.94 307,-480.32
3D body: height 21.81, standoff -1.81, extent 244.18,-503.94 267.63,-480.32
3D body: height 21.81, standoff -1.81, extent 204.81,-503.94 228.26,-480.32
3D body: height 21.81, standoff -1.81, extent 165.44,-503.94 188.89,-480.32
3D body: height 21.81, standoff -1.81, extent 126.07,-503.94 149.52,-480.32
3D body: height 21.81, standoff -1.81, extent 559.14,-503.94 582.59,-480.32
3D body: height 21.81, standoff -1.81, extent 519.77,-503.94 543.22,-480.32
3D body: height 21.81, standoff -1.81, extent 480.4,-503.94 503.85,-480.32
3D body: height 21.81, standoff -1.81, extent -267.63,-464.57 -244.18,-440.95
3D body: height 21.81, standoff -1.81, extent -307,-464.57 -283.55,-440.95
3D body: height 21.81, standoff -1.81, extent -346.37,-464.57 -322.92,-440.95
3D body: height 21.81, standoff -1.81, extent -385.74,-464.57 -362.29,-440.95
3D body: height 21.81, standoff -1.81, extent -425.11,-464.57 -401.66,-440.95
3D body: height 21.81, standoff -1.81, extent -464.48,-464.57 -441.03,-440.95
3D body: height 21.81, standoff -1.81, extent -503.85,-464.57 -480.4,-440.95
3D body: height 21.81, standoff -1.81, extent -543.22,-464.57 -519.77,-440.95
3D body: height 21.81, standoff -1.81, extent -582.59,-464.57 -559.14,-440.95
3D body: height 21.81, standoff -1.81, extent 86.7,-464.57 110.15,-440.95
3D body: height 21.81, standoff -1.81, extent 47.33,-464.57 70.78,-440.95
3D body: height 21.81, standoff -1.81, extent 7.96,-464.57 31.41,-440.95
3D body: height 21.81, standoff -1.81, extent -31.41,-464.57 -7.96,-440.95
3D body: height 21.81, standoff -1.81, extent -70.78,-464.57 -47.33,-440.95
3D body: height 21.81, standoff -1.81, extent -110.15,-464.57 -86.7,-440.95
3D body: height 21.81, standoff -1.81, extent -149.52,-464.57 -126.07,-440.95
3D body: height 21.81, standoff -1.81, extent -188.89,-464.57 -165.44,-440.95
3D body: height 21.81, standoff -1.81, extent -228.26,-464.57 -204.81,-440.95
3D body: height 21.81, standoff -1.81, extent 441.03,-464.57 464.48,-440.95
3D body: height 21.81, standoff -1.81, extent 401.66,-464.57 425.11,-440.95
3D body: height 21.81, standoff -1.81, extent 362.29,-464.57 385.74,-440.95
3D body: height 21.81, standoff -1.81, extent 322.92,-464.57 346.37,-440.95
3D body: height 21.81, standoff -1.81, extent 283.55,-464.57 307,-440.95
3D body: height 21.81, standoff -1.81, extent 244.18,-464.57 267.63,-440.95
3D body: height 21.81, standoff -1.81, extent 204.81,-464.57 228.26,-440.95
3D body: height 21.81, standoff -1.81, extent 165.44,-464.57 188.89,-440.95
3D body: height 21.81, standoff -1.81, extent 126.07,-464.57 149.52,-440.95
3D body: height 21.81, standoff -1.81, extent 559.14,-464.57 582.59,-440.95
3D body: height 21.81, standoff -1.81, extent 519.77,-464.57 543.22,-440.95
3D body: height 21.81, standoff -1.81, extent 480.4,-464.57 503.85,-440.95
3D body: height 21.81, standoff -1.81, extent -267.63,-425.2 -244.18,-401.58
3D body: height 21.81, standoff -1.81, extent -307,-425.2 -283.55,-401.58
3D body: height 21.81, standoff -1.81, extent -346.37,-425.2 -322.92,-401.58
3D body: height 21.81, standoff -1.81, extent -385.74,-425.2 -362.29,-401.58
3D body: height 21.81, standoff -1.81, extent -425.11,-425.2 -401.66,-401.58
3D body: height 21.81, standoff -1.81, extent -464.48,-425.2 -441.03,-401.58
3D body: height 21.81, standoff -1.81, extent -503.85,-425.2 -480.4,-401.58
3D body: height 21.81, standoff -1.81, extent -543.22,-425.2 -519.77,-401.58
3D body: height 21.81, standoff -1.81, extent -582.59,-425.2 -559.14,-401.58
3D body: height 21.81, standoff -1.81, extent 86.7,-425.2 110.15,-401.58
3D body: height 21.81, standoff -1.81, extent 47.33,-425.2 70.78,-401.58
3D body: height 21.81, standoff -1.81, extent 7.96,-425.2 31.41,-401.58
3D body: height 21.81, standoff -1.81, extent -31.41,-425.2 -7.96,-401.58
3D body: height 21.81, standoff -1.81, extent -70.78,-425.2 -47.33,-401.58
3D body: height 21.81, standoff -1.81, extent -110.15,-425.2 -86.7,-401.58
3D body: height 21.81, standoff -1.81, extent -149.52,-425.2 -126.07,-401.58
3D body: height 21.81, standoff -1.81, extent -188.89,-425.2 -165.44,-401.58
3D body: height 21.81, standoff -1.81, extent -228.26,-425.2 -204.81,-401.58
3D body: height 21.81, standoff -1.81, extent 441.03,-425.2 464.48,-401.58
3D body: height 21.81, standoff -1.81, extent 401.66,-425.2 425.11,-401.58
3D body: height 21.81, standoff -1.81, extent 362.29,-425.2 385.74,-401.58
3D body: height 21.81, standoff -1.81, extent 322.92,-425.2 346.37,-401.58
3D body: height 21.81, standoff -1.81, extent 283.55,-425.2 307,-401.58
3D body: height 21.81, standoff -1.81, extent 244.18,-425.2 267.63,-401.58
3D body: height 21.81, standoff -1.81, extent 204.81,-425.2 228.26,-401.58
3D body: height 21.81, standoff -1.81, extent 165.44,-425.2 188.89,-401.58
3D body: height 21.81, standoff -1.81, extent 126.07,-425.2 149.52,-401.58
3D body: height 21.81, standoff -1.81, extent 559.14,-425.2 582.59,-401.58
3D body: height 21.81, standoff -1.81, extent 519.77,-425.2 543.22,-401.58
3D body: height 21.81, standoff -1.81, extent 480.4,-425.2 503.85,-401.58
3D body: height 21.81, standoff -1.81, extent -267.63,-385.83 -244.18,-362.21
3D body: height 21.81, standoff -1.81, extent -307,-385.83 -283.55,-362.21
3D body: height 21.81, standoff -1.81, extent -346.37,-385.83 -322.92,-362.21
3D body: height 21.81, standoff -1.81, extent -385.74,-385.83 -362.29,-362.21
3D body: height 21.81, standoff -1.81, extent -425.11,-385.83 -401.66,-362.21
3D body: height 21.81, standoff -1.81, extent -464.48,-385.83 -441.03,-362.21
3D body: height 21.81, standoff -1.81, extent -503.85,-385.83 -480.4,-362.21
3D body: height 21.81, standoff -1.81, extent -543.22,-385.83 -519.77,-362.21
3D body: height 21.81, standoff -1.81, extent -582.59,-385.83 -559.14,-362.21
3D body: height 21.81, standoff -1.81, extent 86.7,-385.83 110.15,-362.21
3D body: height 21.81, standoff -1.81, extent 47.33,-385.83 70.78,-362.21
3D body: height 21.81, standoff -1.81, extent 7.96,-385.83 31.41,-362.21
3D body: height 21.81, standoff -1.81, extent -31.41,-385.83 -7.96,-362.21
3D body: height 21.81, standoff -1.81, extent -70.78,-385.83 -47.33,-362.21
3D body: height 21.81, standoff -1.81, extent -110.15,-385.83 -86.7,-362.21
3D body: height 21.81, standoff -1.81, extent -149.52,-385.83 -126.07,-362.21
3D body: height 21.81, standoff -1.81, extent -188.89,-385.83 -165.44,-362.21
3D body: height 21.81, standoff -1.81, extent -228.26,-385.83 -204.81,-362.21
3D body: height 21.81, standoff -1.81, extent 441.03,-385.83 464.48,-362.21
3D body: height 21.81, standoff -1.81, extent 401.66,-385.83 425.11,-362.21
3D body: height 21.81, standoff -1.81, extent 362.29,-385.83 385.74,-362.21
3D body: height 21.81, standoff -1.81, extent 322.92,-385.83 346.37,-362.21
3D body: height 21.81, standoff -1.81, extent 283.55,-385.83 307,-362.21
3D body: height 21.81, standoff -1.81, extent 244.18,-385.83 267.63,-362.21
3D body: height 21.81, standoff -1.81, extent 204.81,-385.83 228.26,-362.21
3D body: height 21.81, standoff -1.81, extent 165.44,-385.83 188.89,-362.21
3D body: height 21.81, standoff -1.81, extent 126.07,-385.83 149.52,-362.21
3D body: height 21.81, standoff -1.81, extent 559.14,-385.83 582.59,-362.21
3D body: height 21.81, standoff -1.81, extent 519.77,-385.83 543.22,-362.21
3D body: height 21.81, standoff -1.81, extent 480.4,-385.83 503.85,-362.21
3D body: height 21.81, standoff -1.81, extent -267.63,-346.46 -244.18,-322.84
3D body: height 21.81, standoff -1.81, extent -307,-346.46 -283.55,-322.84
3D body: height 21.81, standoff -1.81, extent -346.37,-346.46 -322.92,-322.84
3D body: height 21.81, standoff -1.81, extent -385.74,-346.46 -362.29,-322.84
3D body: height 21.81, standoff -1.81, extent -425.11,-346.46 -401.66,-322.84
3D body: height 21.81, standoff -1.81, extent -464.48,-346.46 -441.03,-322.84
3D body: height 21.81, standoff -1.81, extent -503.85,-346.46 -480.4,-322.84
3D body: height 21.81, standoff -1.81, extent -543.22,-346.46 -519.77,-322.84
3D body: height 21.81, standoff -1.81, extent -582.59,-346.46 -559.14,-322.84
3D body: height 21.81, standoff -1.81, extent 86.7,-346.46 110.15,-322.84
3D body: height 21.81, standoff -1.81, extent 47.33,-346.46 70.78,-322.84
3D body: height 21.81, standoff -1.81, extent 7.96,-346.46 31.41,-322.84
3D body: height 21.81, standoff -1.81, extent -31.41,-346.46 -7.96,-322.84
3D body: height 21.81, standoff -1.81, extent -70.78,-346.46 -47.33,-322.84
3D body: height 21.81, standoff -1.81, extent -110.15,-346.46 -86.7,-322.84
3D body: height 21.81, standoff -1.81, extent -149.52,-346.46 -126.07,-322.84
3D body: height 21.81, standoff -1.81, extent -188.89,-346.46 -165.44,-322.84
3D body: height 21.81, standoff -1.81, extent -228.26,-346.46 -204.81,-322.84
3D body: height 21.81, standoff -1.81, extent 441.03,-346.46 464.48,-322.84
3D body: height 21.81, standoff -1.81, extent 401.66,-346.46 425.11,-322.84
3D body: height 21.81, standoff -1.81, extent 362.29,-346.46 385.74,-322.84
3D body: height 21.81, standoff -1.81, extent 322.92,-346.46 346.37,-322.84
3D body: height 21.81, standoff -1.81, extent 283.55,-346.46 307,-322.84
3D body: height 21.81, standoff -1.81, extent 244.18,-346.46 267.63,-322.84
3D body: height 21.81, standoff -1.81, extent 204.81,-346.46 228.26,-322.84
3D body: height 21.81, standoff -1.81, extent 165.44,-346.46 188.89,-322.84
3D body: height 21.81, standoff -1.81, extent 126.07,-346.46 149.52,-322.84
3D body: height 21.81, standoff -1.81, extent 559.14,-346.46 582.59,-322.84
3D body: height 21.81, standoff -1.81, extent 519.77,-346.46 543.22,-322.84
3D body: height 21.81, standoff -1.81, extent 480.4,-346.46 503.85,-322.84
3D body: height 21.81, standoff -1.81, extent -267.63,-307.09 -244.18,-283.47
3D body: height 21.81, standoff -1.81, extent -307,-307.09 -283.55,-283.47
3D body: height 21.81, standoff -1.81, extent -346.37,-307.09 -322.92,-283.47
3D body: height 21.81, standoff -1.81, extent -385.74,-307.09 -362.29,-283.47
3D body: height 21.81, standoff -1.81, extent -425.11,-307.09 -401.66,-283.47
3D body: height 21.81, standoff -1.81, extent -464.48,-307.09 -441.03,-283.47
3D body: height 21.81, standoff -1.81, extent -503.85,-307.09 -480.4,-283.47
3D body: height 21.81, standoff -1.81, extent -543.22,-307.09 -519.77,-283.47
3D body: height 21.81, standoff -1.81, extent -582.59,-307.09 -559.14,-283.47
3D body: height 21.81, standoff -1.81, extent 86.7,-307.09 110.15,-283.47
3D body: height 21.81, standoff -1.81, extent 47.33,-307.09 70.78,-283.47
3D body: height 21.81, standoff -1.81, extent 7.96,-307.09 31.41,-283.47
3D body: height 21.81, standoff -1.81, extent -31.41,-307.09 -7.96,-283.47
3D body: height 21.81, standoff -1.81, extent -70.78,-307.09 -47.33,-283.47
3D body: height 21.81, standoff -1.81, extent -110.15,-307.09 -86.7,-283.47
3D body: height 21.81, standoff -1.81, extent -149.52,-307.09 -126.07,-283.47
3D body: height 21.81, standoff -1.81, extent -188.89,-307.09 -165.44,-283.47
3D body: height 21.81, standoff -1.81, extent -228.26,-307.09 -204.81,-283.47
3D body: height 21.81, standoff -1.81, extent 441.03,-307.09 464.48,-283.47
3D body: height 21.81, standoff -1.81, extent 401.66,-307.09 425.11,-283.47
3D body: height 21.81, standoff -1.81, extent 362.29,-307.09 385.74,-283.47
3D body: height 21.81, standoff -1.81, extent 322.92,-307.09 346.37,-283.47
3D body: height 21.81, standoff -1.81, extent 283.55,-307.09 307,-283.47
3D body: height 21.81, standoff -1.81, extent 244.18,-307.09 267.63,-283.47
3D body: height 21.81, standoff -1.81, extent 204.81,-307.09 228.26,-283.47
3D body: height 21.81, standoff -1.81, extent 165.44,-307.09 188.89,-283.47
3D body: height 21.81, standoff -1.81, extent 126.07,-307.09 149.52,-283.47
3D body: height 21.81, standoff -1.81, extent 559.14,-307.09 582.59,-283.47
3D body: height 21.81, standoff -1.81, extent 519.77,-307.09 543.22,-283.47
3D body: height 21.81, standoff -1.81, extent 480.4,-307.09 503.85,-283.47
3D body: height 21.81, standoff -1.81, extent -267.63,-267.72 -244.18,-244.1
3D body: height 21.81, standoff -1.81, extent -307,-267.72 -283.55,-244.1
3D body: height 21.81, standoff -1.81, extent -346.37,-267.72 -322.92,-244.1
3D body: height 21.81, standoff -1.81, extent -385.74,-267.72 -362.29,-244.1
3D body: height 21.81, standoff -1.81, extent -425.11,-267.72 -401.66,-244.1
3D body: height 21.81, standoff -1.81, extent -464.48,-267.72 -441.03,-244.1
3D body: height 21.81, standoff -1.81, extent -503.85,-267.72 -480.4,-244.1
3D body: height 21.81, standoff -1.81, extent -543.22,-267.72 -519.77,-244.1
3D body: height 21.81, standoff -1.81, extent -582.59,-267.72 -559.14,-244.1
3D body: height 21.81, standoff -1.81, extent 86.7,-267.72 110.15,-244.1
3D body: height 21.81, standoff -1.81, extent 47.33,-267.72 70.78,-244.1
3D body: height 21.81, standoff -1.81, extent 7.96,-267.72 31.41,-244.1
3D body: height 21.81, standoff -1.81, extent -31.41,-267.72 -7.96,-244.1
3D body: height 21.81, standoff -1.81, extent -70.78,-267.72 -47.33,-244.1
3D body: height 21.81, standoff -1.81, extent -110.15,-267.72 -86.7,-244.1
3D body: height 21.81, standoff -1.81, extent -149.52,-267.72 -126.07,-244.1
3D body: height 21.81, standoff -1.81, extent -188.89,-267.72 -165.44,-244.1
3D body: height 21.81, standoff -1.81, extent -228.26,-267.72 -204.81,-244.1
3D body: height 21.81, standoff -1.81, extent 441.03,-267.72 464.48,-244.1
3D body: height 21.81, standoff -1.81, extent 401.66,-267.72 425.11,-244.1
3D body: height 21.81, standoff -1.81, extent 362.29,-267.72 385.74,-244.1
3D body: height 21.81, standoff -1.81, extent 322.92,-267.72 346.37,-244.1
3D body: height 21.81, standoff -1.81, extent 283.55,-267.72 307,-244.1
3D body: height 21.81, standoff -1.81, extent 244.18,-267.72 267.63,-244.1
3D body: height 21.81, standoff -1.81, extent 204.81,-267.72 228.26,-244.1
3D body: height 21.81, standoff -1.81, extent 165.44,-267.72 188.89,-244.1
3D body: height 21.81, standoff -1.81, extent 126.07,-267.72 149.52,-244.1
3D body: height 21.81, standoff -1.81, extent 559.14,-267.72 582.59,-244.1
3D body: height 21.81, standoff -1.81, extent 519.77,-267.72 543.22,-244.1
3D body: height 21.81, standoff -1.81, extent 480.4,-267.72 503.85,-244.1
3D body: height 21.81, standoff -1.81, extent -267.63,-228.35 -244.18,-204.73
3D body: height 21.81, standoff -1.81, extent -307,-228.35 -283.55,-204.73
3D body: height 21.81, standoff -1.81, extent -346.37,-228.35 -322.92,-204.73
3D body: height 21.81, standoff -1.81, extent -385.74,-228.35 -362.29,-204.73
3D body: height 21.81, standoff -1.81, extent -425.11,-228.35 -401.66,-204.73
3D body: height 21.81, standoff -1.81, extent -464.48,-228.35 -441.03,-204.73
3D body: height 21.81, standoff -1.81, extent -503.85,-228.35 -480.4,-204.73
3D body: height 21.81, standoff -1.81, extent -543.22,-228.35 -519.77,-204.73
3D body: height 21.81, standoff -1.81, extent -582.59,-228.35 -559.14,-204.73
3D body: height 21.81, standoff -1.81, extent 86.7,-228.35 110.15,-204.73
3D body: height 21.81, standoff -1.81, extent 47.33,-228.35 70.78,-204.73
3D body: height 21.81, standoff -1.81, extent 7.96,-228.35 31.41,-204.73
3D body: height 21.81, standoff -1.81, extent -31.41,-228.35 -7.96,-204.73
3D body: height 21.81, standoff -1.81, extent -70.78,-228.35 -47.33,-204.73
3D body: height 21.81, standoff -1.81, extent -110.15,-228.35 -86.7,-204.73
3D body: height 21.81, standoff -1.81, extent -149.52,-228.35 -126.07,-204.73
3D body: height 21.81, standoff -1.81, extent -188.89,-228.35 -165.44,-204.73
3D body: height 21.81, standoff -1.81, extent -228.26,-228.35 -204.81,-204.73
3D body: height 21.81, standoff -1.81, extent 441.03,-228.35 464.48,-204.73
3D body: height 21.81, standoff -1.81, extent 401.66,-228.35 425.11,-204.73
3D body: height 21.81, standoff -1.81, extent 362.29,-228.35 385.74,-204.73
3D body: height 21.81, standoff -1.81, extent 322.92,-228.35 346.37,-204.73
3D body: height 21.81, standoff -1.81, extent 283.55,-228.35 307,-204.73
3D body: height 21.81, standoff -1.81, extent 244.18,-228.35 267.63,-204.73
3D body: height 21.81, standoff -1.81, extent 204.81,-228.35 228.26,-204.73
3D body: height 21.81, standoff -1.81, extent 165.44,-228.35 188.89,-204.73
3D body: height 21.81, standoff -1.81, extent 126.07,-228.35 149.52,-204.73
3D body: height 21.81, standoff -1.81, extent 559.14,-228.35 582.59,-204.73
3D body: height 21.81, standoff -1.81, extent 519.77,-228.35 543.22,-204.73
3D body: height 21.81, standoff -1.81, extent 480.4,-228.35 503.85,-204.73
3D body: height 21.81, standoff -1.81, extent -267.63,-188.98 -244.18,-165.36
3D body: height 21.81, standoff -1.81, extent -307,-188.98 -283.55,-165.36
3D body: height 21.81, standoff -1.81, extent -346.37,-188.98 -322.92,-165.36
3D body: height 21.81, standoff -1.81, extent -385.74,-188.98 -362.29,-165.36
3D body: height 21.81, standoff -1.81, extent -425.11,-188.98 -401.66,-165.36
3D body: height 21.81, standoff -1.81, extent -464.48,-188.98 -441.03,-165.36
3D body: height 21.81, standoff -1.81, extent -503.85,-188.98 -480.4,-165.36
3D body: height 21.81, standoff -1.81, extent -543.22,-188.98 -519.77,-165.36
3D body: height 21.81, standoff -1.81, extent -582.59,-188.98 -559.14,-165.36
3D body: height 21.81, standoff -1.81, extent 86.7,-188.98 110.15,-165.36
3D body: height 21.81, standoff -1.81, extent 47.33,-188.98 70.78,-165.36
3D body: height 21.81, standoff -1.81, extent 7.96,-188.98 31.41,-165.36
3D body: height 21.81, standoff -1.81, extent -31.41,-188.98 -7.96,-165.36
3D body: height 21.81, standoff -1.81, extent -70.78,-188.98 -47.33,-165.36
3D body: height 21.81, standoff -1.81, extent -110.15,-188.98 -86.7,-165.36
3D body: height 21.81, standoff -1.81, extent -149.52,-188.98 -126.07,-165.36
3D body: height 21.81, standoff -1.81, extent -188.89,-188.98 -165.44,-165.36
3D body: height 21.81, standoff -1.81, extent -228.26,-188.98 -204.81,-165.36
3D body: height 21.81, standoff -1.81, extent 441.03,-188.98 464.48,-165.36
3D body: height 21.81, standoff -1.81, extent 401.66,-188.98 425.11,-165.36
3D body: height 21.81, standoff -1.81, extent 362.29,-188.98 385.74,-165.36
3D body: height 21.81, standoff -1.81, extent 322.92,-188.98 346.37,-165.36
3D body: height 21.81, standoff -1.81, extent 283.55,-188.98 307,-165.36
3D body: height 21.81, standoff -1.81, extent 244.18,-188.98 267.63,-165.36
3D body: height 21.81, standoff -1.81, extent 204.81,-188.98 228.26,-165.36
3D body: height 21.81, standoff -1.81, extent 165.44,-188.98 188.89,-165.36
3D body: height 21.81, standoff -1.81, extent 126.07,-188.98 149.52,-165.36
3D body: height 21.81, standoff -1.81, extent 559.14,-188.98 582.59,-165.36
3D body: height 21.81, standoff -1.81, extent 519.77,-188.98 543.22,-165.36
3D body: height 21.81, standoff -1.81, extent 480.4,-188.98 503.85,-165.36
3D body: height 21.81, standoff -1.81, extent -267.63,-149.61 -244.18,-125.99
3D body: height 21.81, standoff -1.81, extent -307,-149.61 -283.55,-125.99
3D body: height 21.81, standoff -1.81, extent -346.37,-149.61 -322.92,-125.99
3D body: height 21.81, standoff -1.81, extent -385.74,-149.61 -362.29,-125.99
3D body: height 21.81, standoff -1.81, extent -425.11,-149.61 -401.66,-125.99
3D body: height 21.81, standoff -1.81, extent -464.48,-149.61 -441.03,-125.99
3D body: height 21.81, standoff -1.81, extent -503.85,-149.61 -480.4,-125.99
3D body: height 21.81, standoff -1.81, extent -543.22,-149.61 -519.77,-125.99
3D body: height 21.81, standoff -1.81, extent -582.59,-149.61 -559.14,-125.99
3D body: height 21.81, standoff -1.81, extent 86.7,-149.61 110.15,-125.99
3D body: height 21.81, standoff -1.81, extent 47.33,-149.61 70.78,-125.99
3D body: height 21.81, standoff -1.81, extent 7.96,-149.61 31.41,-125.99
3D body: height 21.81, standoff -1.81, extent -31.41,-149.61 -7.96,-125.99
3D body: height 21.81, standoff -1.81, extent -70.78,-149.61 -47.33,-125.99
3D body: height 21.81, standoff -1.81, extent -110.15,-149.61 -86.7,-125.99
3D body: height 21.81, standoff -1.81, extent -149.52,-149.61 -126.07,-125.99
3D body: height 21.81, standoff -1.81, extent -188.89,-149.61 -165.44,-125.99
3D body: height 21.81, standoff -1.81, extent -228.26,-149.61 -204.81,-125.99
3D body: height 21.81, standoff -1.81, extent 441.03,-149.61 464.48,-125.99
3D body: height 21.81, standoff -1.81, extent 401.66,-149.61 425.11,-125.99
3D body: height 21.81, standoff -1.81, extent 362.29,-149.61 385.74,-125.99
3D body: height 21.81, standoff -1.81, extent 322.92,-149.61 346.37,-125.99
3D body: height 21.81, standoff -1.81, extent 283.55,-149.61 307,-125.99
3D body: height 21.81, standoff -1.81, extent 244.18,-149.61 267.63,-125.99
3D body: height 21.81, standoff -1.81, extent 204.81,-149.61 228.26,-125.99
3D body: height 21.81, standoff -1.81, extent 165.44,-149.61 188.89,-125.99
3D body: height 21.81, standoff -1.81, extent 126.07,-149.61 149.52,-125.99
3D body: height 21.81, standoff -1.81, extent 559.14,-149.61 582.59,-125.99
3D body: height 21.81, standoff -1.81, extent 519.77,-149.61 543.22,-125.99
3D body: height 21.81, standoff -1.81, extent 480.4,-149.61 503.85,-125.99
3D body: height 21.81, standoff -1.81, extent -267.63,-110.24 -244.18,-86.62
3D body: height 21.81, standoff -1.81, extent -307,-110.24 -283.55,-86.62
3D body: height 21.81, standoff -1.81, extent -346.37,-110.24 -322.92,-86.62
3D body: height 21.81, standoff -1.81, extent -385.74,-110.24 -362.29,-86.62
3D body: height 21.81, standoff -1.81, extent -425.11,-110.24 -401.66,-86.62
3D body: height 21.81, standoff -1.81, extent -464.48,-110.24 -441.03,-86.62
3D body: height 21.81, standoff -1.81, extent -503.85,-110.24 -480.4,-86.62
3D body: height 21.81, standoff -1.81, extent -543.22,-110.24 -519.77,-86.62
3D body: height 21.81, standoff -1.81, extent -582.59,-110.24 -559.14,-86.62
3D body: height 21.81, standoff -1.81, extent 86.7,-110.24 110.15,-86.62
3D body: height 21.81, standoff -1.81, extent 47.33,-110.24 70.78,-86.62
3D body: height 21.81, standoff -1.81, extent 7.96,-110.24 31.41,-86.62
3D body: height 21.81, standoff -1.81, extent -31.41,-110.24 -7.96,-86.62
3D body: height 21.81, standoff -1.81, extent -70.78,-110.24 -47.33,-86.62
3D body: height 21.81, standoff -1.81, extent -110.15,-110.24 -86.7,-86.62
3D body: height 21.81, standoff -1.81, extent -149.52,-110.24 -126.07,-86.62
3D body: height 21.81, standoff -1.81, extent -188.89,-110.24 -165.44,-86.62
3D body: height 21.81, standoff -1.81, extent -228.26,-110.24 -204.81,-86.62
3D body: height 21.81, standoff -1.81, extent 441.03,-110.24 464.48,-86.62
3D body: height 21.81, standoff -1.81, extent 401.66,-110.24 425.11,-86.62
3D body: height 21.81, standoff -1.81, extent 362.29,-110.24 385.74,-86.62
3D body: height 21.81, standoff -1.81, extent 322.92,-110.24 346.37,-86.62
3D body: height 21.81, standoff -1.81, extent 283.55,-110.24 307,-86.62
3D body: height 21.81, standoff -1.81, extent 244.18,-110.24 267.63,-86.62
3D body: height 21.81, standoff -1.81, extent 204.81,-110.24 228.26,-86.62
3D body: height 21.81, standoff -1.81, extent 165.44,-110.24 188.89,-86.62
3D body: height 21.81, standoff -1.81, extent 126.07,-110.24 149.52,-86.62
3D body: height 21.81, standoff -1.81, extent 559.14,-110.24 582.59,-86.62
3D body: height 21.81, standoff -1.81, extent 519.77,-110.24 543.22,-86.62
3D body: height 21.81, standoff -1.81, extent 480.4,-110.24 503.85,-86.62
3D body: height 21.81, standoff -1.81, extent -267.63,-70.87 -244.18,-47.25
3D body: height 21.81, standoff -1.81, extent -307,-70.87 -283.55,-47.25
3D body: height 21.81, standoff -1.81, extent -346.37,-70.87 -322.92,-47.25
3D body: height 21.81, standoff -1.81, extent -385.74,-70.87 -362.29,-47.25
3D body: height 21.81, standoff -1.81, extent -425.11,-70.87 -401.66,-47.25
3D body: height 21.81, standoff -1.81, extent -464.48,-70.87 -441.03,-47.25
3D body: height 21.81, standoff -1.81, extent -503.85,-70.87 -480.4,-47.25
3D body: height 21.81, standoff -1.81, extent -543.22,-70.87 -519.77,-47.25
3D body: height 21.81, standoff -1.81, extent -582.59,-70.87 -559.14,-47.25
3D body: height 21.81, standoff -1.81, extent 86.7,-70.87 110.15,-47.25
3D body: height 21.81, standoff -1.81, extent 47.33,-70.87 70.78,-47.25
3D body: height 21.81, standoff -1.81, extent 7.96,-70.87 31.41,-47.25
3D body: height 21.81, standoff -1.81, extent -31.41,-70.87 -7.96,-47.25
3D body: height 21.81, standoff -1.81, extent -70.78,-70.87 -47.33,-47.25
3D body: height 21.81, standoff -1.81, extent -110.15,-70.87 -86.7,-47.25
3D body: height 21.81, standoff -1.81, extent -149.52,-70.87 -126.07,-47.25
3D body: height 21.81, standoff -1.81, extent -188.89,-70.87 -165.44,-47.25
3D body: height 21.81, standoff -1.81, extent -228.26,-70.87 -204.81,-47.25
3D body: height 21.81, standoff -1.81, extent 441.03,-70.87 464.48,-47.25
3D body: height 21.81, standoff -1.81, extent 401.66,-70.87 425.11,-47.25
3D body: height 21.81, standoff -1.81, extent 362.29,-70.87 385.74,-47.25
3D body: height 21.81, standoff -1.81, extent 322.92,-70.87 346.37,-47.25
3D body: height 21.81, standoff -1.81, extent 283.55,-70.87 307,-47.25
3D body: height 21.81, standoff -1.81, extent 244.18,-70.87 267.63,-47.25
3D body: height 21.81, standoff -1.81, extent 204.81,-70.87 228.26,-47.25
3D body: height 21.81, standoff -1.81, extent 165.44,-70.87 188.89,-47.25
3D body: height 21.81, standoff -1.81, extent 126.07,-70.87 149.52,-47.25
3D body: height 21.81, standoff -1.81, extent 559.14,-70.87 582.59,-47.25
3D body: height 21.81, standoff -1.81, extent 519.77,-70.87 543.22,-47.25
3D body: height 21.81, standoff -1.81, extent 480.4,-70.87 503.85,-47.25
3D body: height 21.81, standoff -1.81, extent -267.63,-31.5 -244.18,-7.88
3D body: height 21.81, standoff -1.81, extent -307,-31.5 -283.55,-7.88
3D body: height 21.81, standoff -1.81, extent -346.37,-31.5 -322.92,-7.88
3D body: height 21.81, standoff -1.81, extent -385.74,-31.5 -362.29,-7.88
3D body: height 21.81, standoff -1.81, extent -425.11,-31.5 -401.66,-7.88
3D body: height 21.81, standoff -1.81, extent -464.48,-31.5 -441.03,-7.88
3D body: height 21.81, standoff -1.81, extent -503.85,-31.5 -480.4,-7.88
3D body: height 21.81, standoff -1.81, extent -543.22,-31.5 -519.77,-7.88
3D body: height 21.81, standoff -1.81, extent -582.59,-31.5 -559.14,-7.88
3D body: height 21.81, standoff -1.81, extent 86.7,-31.5 110.15,-7.88
3D body: height 21.81, standoff -1.81, extent 47.33,-31.5 70.78,-7.88
3D body: height 21.81, standoff -1.81, extent 7.96,-31.5 31.41,-7.88
3D body: height 21.81, standoff -1.81, extent -31.41,-31.5 -7.96,-7.88
3D body: height 21.81, standoff -1.81, extent -70.78,-31.5 -47.33,-7.88
3D body: height 21.81, standoff -1.81, extent -110.15,-31.5 -86.7,-7.88
3D body: height 21.81, standoff -1.81, extent -149.52,-31.5 -126.07,-7.88
3D body: height 21.81, standoff -1.81, extent -188.89,-31.5 -165.44,-7.88
3D body: height 21.81, standoff -1.81, extent -228.26,-31.5 -204.81,-7.88
3D body: height 21.81, standoff -1.81, extent 441.03,-31.5 464.48,-7.88
3D body: height 21.81, standoff -1.81, extent 401.66,-31.5 425.11,-7.88
3D body: height 21.81, standoff -1.81, extent 362.29,-31.5 385.74,-7.88
3D body: height 21.81, standoff -1.81, extent 322.92,-31.5 346.37,-7.88
3D body: height 21.81, standoff -1.81, extent 283.55,-31.5 307,-7.88
3D body: height 21.81, standoff -1.81, extent 244.18,-31.5 267.63,-7.88
3D body: height 21.81, standoff -1.81, extent 204.81,-31.5 228.26,-7.88
3D body: height 21.81, standoff -1.81, extent 165.44,-31.5 188.89,-7.88
3D body: height 21.81, standoff -1.81, extent 126.07,-31.5 149.52,-7.88
3D body: height 21.81, standoff -1.81, extent 559.14,-31.5 582.59,-7.88
3D body: height 21.81, standoff -1.81, extent 519.77,-31.5 543.22,-7.88
3D body: height 21.81, standoff -1.81, extent 480.4,-31.5 503.85,-7.88
3D body: height 21.81, standoff -1.81, extent -267.63,7.87 -244.18,31.49
3D body: height 21.81, standoff -1.81, extent -307,7.87 -283.55,31.49
3D body: height 21.81, standoff -1.81, extent -346.37,7.87 -322.92,31.49
3D body: height 21.81, standoff -1.81, extent -385.74,7.87 -362.29,31.49
3D body: height 21.81, standoff -1.81, extent -425.11,7.87 -401.66,31.49
3D body: height 21.81, standoff -1.81, extent -464.48,7.87 -441.03,31.49
3D body: height 21.81, standoff -1.81, extent -503.85,7.87 -480.4,31.49
3D body: height 21.81, standoff -1.81, extent -543.22,7.87 -519.77,31.49
3D body: height 21.81, standoff -1.81, extent -582.59,7.87 -559.14,31.49
3D body: height 21.81, standoff -1.81, extent 86.7,7.87 110.15,31.49
3D body: height 21.81, standoff -1.81, extent 47.33,7.87 70.78,31.49
3D body: height 21.81, standoff -1.81, extent 7.96,7.87 31.41,31.49
3D body: height 21.81, standoff -1.81, extent -31.41,7.87 -7.96,31.49
3D body: height 21.81, standoff -1.81, extent -70.78,7.87 -47.33,31.49
3D body: height 21.81, standoff -1.81, extent -110.15,7.87 -86.7,31.49
3D body: height 21.81, standoff -1.81, extent -149.52,7.87 -126.07,31.49
3D body: height 21.81, standoff -1.81, extent -188.89,7.87 -165.44,31.49
3D body: height 21.81, standoff -1.81, extent -228.26,7.87 -204.81,31.49
3D body: height 21.81, standoff -1.81, extent 441.03,7.87 464.48,31.49
3D body: height 21.81, standoff -1.81, extent 401.66,7.87 425.11,31.49
3D body: height 21.81, standoff -1.81, extent 362.29,7.87 385.74,31.49
3D body: height 21.81, standoff -1.81, extent 322.92,7.87 346.37,31.49
3D body: height 21.81, standoff -1.81, extent 283.55,7.87 307,31.49
3D body: height 21.81, standoff -1.81, extent 244.18,7.87 267.63,31.49
3D body: height 21.81, standoff -1.81, extent 204.81,7.87 228.26,31.49
3D body: height 21.81, standoff -1.81, extent 165.44,7.87 188.89,31.49
3D body: height 21.81, standoff -1.81, extent 126.07,7.87 149.52,31.49
3D body: height 21.81, standoff -1.81, extent 559.14,7.87 582.59,31.49
3D body: height 21.81, standoff -1.81, extent 519.77,7.87 543.22,31.49
3D body: height 21.81, standoff -1.81, extent 480.4,7.87 503.85,31.49
3D body: height 21.81, standoff -1.81, extent -267.63,47.24 -244.18,70.86
3D body: height 21.81, standoff -1.81, extent -307,47.24 -283.55,70.86
3D body: height 21.81, standoff -1.81, extent -346.37,47.24 -322.92,70.86
3D body: height 21.81, standoff -1.81, extent -385.74,47.24 -362.29,70.86
3D body: height 21.81, standoff -1.81, extent -425.11,47.24 -401.66,70.86
3D body: height 21.81, standoff -1.81, extent -464.48,47.24 -441.03,70.86
3D body: height 21.81, standoff -1.81, extent -503.85,47.24 -480.4,70.86
3D body: height 21.81, standoff -1.81, extent -543.22,47.24 -519.77,70.86
3D body: height 21.81, standoff -1.81, extent -582.59,47.24 -559.14,70.86
3D body: height 21.81, standoff -1.81, extent 86.7,47.24 110.15,70.86
3D body: height 21.81, standoff -1.81, extent 47.33,47.24 70.78,70.86
3D body: height 21.81, standoff -1.81, extent 7.96,47.24 31.41,70.86
3D body: height 21.81, standoff -1.81, extent -31.41,47.24 -7.96,70.86
3D body: height 21.81, standoff -1.81, extent -70.78,47.24 -47.33,70.86
3D body: height 21.81, standoff -1.81, extent -110.15,47.24 -86.7,70.86
3D body: height 21.81, standoff -1.81, extent -149.52,47.24 -126.07,70.86
3D body: height 21.81, standoff -1.81, extent -188.89,47.24 -165.44,70.86
3D body: height 21.81, standoff -1.81, extent -228.26,47.24 -204.81,70.86
3D body: height 21.81, standoff -1.81, extent 441.03,47.24 464.48,70.86
3D body: height 21.81, standoff -1.81, extent 401.66,47.24 425.11,70.86
3D body: height 21.81, standoff -1.81, extent 362.29,47.24 385.74,70.86
3D body: height 21.81, standoff -1.81, extent 322.92,47.24 346.37,70.86
3D body: height 21.81, standoff -1.81, extent 283.55,47.24 307,70.86
3D body: height 21.81, standoff -1.81, extent 244.18,47.24 267.63,70.86
3D body: height 21.81, standoff -1.81, extent 204.81,47.24 228.26,70.86
3D body: height 21.81, standoff -1.81, extent 165.44,47.24 188.89,70.86
3D body: height 21.81, standoff -1.81, extent 126.07,47.24 149.52,70.86
3D body: height 21.81, standoff -1.81, extent 559.14,47.24 582.59,70.86
3D body: height 21.81, standoff -1.81, extent 519.77,47.24 543.22,70.86
3D body: height 21.81, standoff -1.81, extent 480.4,47.24 503.85,70.86
3D body: height 21.81, standoff -1.81, extent -267.63,86.61 -244.18,110.23
3D body: height 21.81, standoff -1.81, extent -307,86.61 -283.55,110.23
3D body: height 21.81, standoff -1.81, extent -346.37,86.61 -322.92,110.23
3D body: height 21.81, standoff -1.81, extent -385.74,86.61 -362.29,110.23
3D body: height 21.81, standoff -1.81, extent -425.11,86.61 -401.66,110.23
3D body: height 21.81, standoff -1.81, extent -464.48,86.61 -441.03,110.23
3D body: height 21.81, standoff -1.81, extent -503.85,86.61 -480.4,110.23
3D body: height 21.81, standoff -1.81, extent -543.22,86.61 -519.77,110.23
3D body: height 21.81, standoff -1.81, extent -582.59,86.61 -559.14,110.23
3D body: height 21.81, standoff -1.81, extent 86.7,86.61 110.15,110.23
3D body: height 21.81, standoff -1.81, extent 47.33,86.61 70.78,110.23
3D body: height 21.81, standoff -1.81, extent 7.96,86.61 31.41,110.23
3D body: height 21.81, standoff -1.81, extent -31.41,86.61 -7.96,110.23
3D body: height 21.81, standoff -1.81, extent -70.78,86.61 -47.33,110.23
3D body: height 21.81, standoff -1.81, extent -110.15,86.61 -86.7,110.23
3D body: height 21.81, standoff -1.81, extent -149.52,86.61 -126.07,110.23
3D body: height 21.81, standoff -1.81, extent -188.89,86.61 -165.44,110.23
3D body: height 21.81, standoff -1.81, extent -228.26,86.61 -204.81,110.23
3D body: height 21.81, standoff -1.81, extent 441.03,86.61 464.48,110.23
3D body: height 21.81, standoff -1.81, extent 401.66,86.61 425.11,110.23
3D body: height 21.81, standoff -1.81, extent 362.29,86.61 385.74,110.23
3D body: height 21.81, standoff -1.81, extent 322.92,86.61 346.37,110.23
3D body: height 21.81, standoff -1.81, extent 283.55,86.61 307,110.23
3D body: height 21.81, standoff -1.81, extent 244.18,86.61 267.63,110.23
3D body: height 21.81, standoff -1.81, extent 204.81,86.61 228.26,110.23
3D body: height 21.81, standoff -1.81, extent 165.44,86.61 188.89,110.23
3D body: height 21.81, standoff -1.81, extent 126.07,86.61 149.52,110.23
3D body: height 21.81, standoff -1.81, extent 559.14,86.61 582.59,110.23
3D body: height 21.81, standoff -1.81, extent 519.77,86.61 543.22,110.23
3D body: height 21.81, standoff -1.81, extent 480.4,86.61 503.85,110.23
3D body: height 21.81, standoff -1.81, extent -267.63,125.98 -244.18,149.6
3D body: height 21.81, standoff -1.81, extent -307,125.98 -283.55,149.6
3D body: height 21.81, standoff -1.81, extent -346.37,125.98 -322.92,149.6
3D body: height 21.81, standoff -1.81, extent -385.74,125.98 -362.29,149.6
3D body: height 21.81, standoff -1.81, extent -425.11,125.98 -401.66,149.6
3D body: height 21.81, standoff -1.81, extent -464.48,125.98 -441.03,149.6
3D body: height 21.81, standoff -1.81, extent -503.85,125.98 -480.4,149.6
3D body: height 21.81, standoff -1.81, extent -543.22,125.98 -519.77,149.6
3D body: height 21.81, standoff -1.81, extent -582.59,125.98 -559.14,149.6
3D body: height 21.81, standoff -1.81, extent 86.7,125.98 110.15,149.6
3D body: height 21.81, standoff -1.81, extent 47.33,125.98 70.78,149.6
3D body: height 21.81, standoff -1.81, extent 7.96,125.98 31.41,149.6
3D body: height 21.81, standoff -1.81, extent -31.41,125.98 -7.96,149.6
3D body: height 21.81, standoff -1.81, extent -70.78,125.98 -47.33,149.6
3D body: height 21.81, standoff -1.81, extent -110.15,125.98 -86.7,149.6
3D body: height 21.81, standoff -1.81, extent -149.52,125.98 -126.07,149.6
3D body: height 21.81, standoff -1.81, extent -188.89,125.98 -165.44,149.6
3D body: height 21.81, standoff -1.81, extent -228.26,125.98 -204.81,149.6
3D body: height 21.81, standoff -1.81, extent 441.03,125.98 464.48,149.6
3D body: height 21.81, standoff -1.81, extent 401.66,125.98 425.11,149.6
3D body: height 21.81, standoff -1.81, extent 362.29,125.98 385.74,149.6
3D body: height 21.81, standoff -1.81, extent 322.92,125.98 346.37,149.6
3D body: height 21.81, standoff -1.81, extent 283.55,125.98 307,149.6
3D body: height 21.81, standoff -1.81, extent 244.18,125.98 267.63,149.6
3D body: height 21.81, standoff -1.81, extent 204.81,125.98 228.26,149.6
3D body: height 21.81, standoff -1.81, extent 165.44,125.98 188.89,149.6
3D body: height 21.81, standoff -1.81, extent 126.07,125.98 149.52,149.6
3D body: height 21.81, standoff -1.81, extent 559.14,125.98 582.59,149.6
3D body: height 21.81, standoff -1.81, extent 519.77,125.98 543.22,149.6
3D body: height 21.81, standoff -1.81, extent 480.4,125.98 503.85,149.6
3D body: height 21.81, standoff -1.81, extent -267.63,165.35 -244.18,188.97
3D body: height 21.81, standoff -1.81, extent -307,165.35 -283.55,188.97
3D body: height 21.81, standoff -1.81, extent -346.37,165.35 -322.92,188.97
3D body: height 21.81, standoff -1.81, extent -385.74,165.35 -362.29,188.97
3D body: height 21.81, standoff -1.81, extent -425.11,165.35 -401.66,188.97
3D body: height 21.81, standoff -1.81, extent -464.48,165.35 -441.03,188.97
3D body: height 21.81, standoff -1.81, extent -503.85,165.35 -480.4,188.97
3D body: height 21.81, standoff -1.81, extent -543.22,165.35 -519.77,188.97
3D body: height 21.81, standoff -1.81, extent -582.59,165.35 -559.14,188.97
3D body: height 21.81, standoff -1.81, extent 86.7,165.35 110.15,188.97
3D body: height 21.81, standoff -1.81, extent 47.33,165.35 70.78,188.97
3D body: height 21.81, standoff -1.81, extent 7.96,165.35 31.41,188.97
3D body: height 21.81, standoff -1.81, extent -31.41,165.35 -7.96,188.97
3D body: height 21.81, standoff -1.81, extent -70.78,165.35 -47.33,188.97
3D body: height 21.81, standoff -1.81, extent -110.15,165.35 -86.7,188.97
3D body: height 21.81, standoff -1.81, extent -149.52,165.35 -126.07,188.97
3D body: height 21.81, standoff -1.81, extent -188.89,165.35 -165.44,188.97
3D body: height 21.81, standoff -1.81, extent -228.26,165.35 -204.81,188.97
3D body: height 21.81, standoff -1.81, extent 441.03,165.35 464.48,188.97
3D body: height 21.81, standoff -1.81, extent 401.66,165.35 425.11,188.97
3D body: height 21.81, standoff -1.81, extent 362.29,165.35 385.74,188.97
3D body: height 21.81, standoff -1.81, extent 322.92,165.35 346.37,188.97
3D body: height 21.81, standoff -1.81, extent 283.55,165.35 307,188.97
3D body: height 21.81, standoff -1.81, extent 244.18,165.35 267.63,188.97
3D body: height 21.81, standoff -1.81, extent 204.81,165.35 228.26,188.97
3D body: height 21.81, standoff -1.81, extent 165.44,165.35 188.89,188.97
3D body: height 21.81, standoff -1.81, extent 126.07,165.35 149.52,188.97
3D body: height 21.81, standoff -1.81, extent 559.14,165.35 582.59,188.97
3D body: height 21.81, standoff -1.81, extent 519.77,165.35 543.22,188.97
3D body: height 21.81, standoff -1.81, extent 480.4,165.35 503.85,188.97
3D body: height 21.81, standoff -1.81, extent -267.63,204.72 -244.18,228.34
3D body: height 21.81, standoff -1.81, extent -307,204.72 -283.55,228.34
3D body: height 21.81, standoff -1.81, extent -346.37,204.72 -322.92,228.34
3D body: height 21.81, standoff -1.81, extent -385.74,204.72 -362.29,228.34
3D body: height 21.81, standoff -1.81, extent -425.11,204.72 -401.66,228.34
3D body: height 21.81, standoff -1.81, extent -464.48,204.72 -441.03,228.34
3D body: height 21.81, standoff -1.81, extent -503.85,204.72 -480.4,228.34
3D body: height 21.81, standoff -1.81, extent -543.22,204.72 -519.77,228.34
3D body: height 21.81, standoff -1.81, extent -582.59,204.72 -559.14,228.34
3D body: height 21.81, standoff -1.81, extent 86.7,204.72 110.15,228.34
3D body: height 21.81, standoff -1.81, extent 47.33,204.72 70.78,228.34
3D body: height 21.81, standoff -1.81, extent 7.96,204.72 31.41,228.34
3D body: height 21.81, standoff -1.81, extent -31.41,204.72 -7.96,228.34
3D body: height 21.81, standoff -1.81, extent -70.78,204.72 -47.33,228.34
3D body: height 21.81, standoff -1.81, extent -110.15,204.72 -86.7,228.34
3D body: height 21.81, standoff -1.81, extent -149.52,204.72 -126.07,228.34
3D body: height 21.81, standoff -1.81, extent -188.89,204.72 -165.44,228.34
3D body: height 21.81, standoff -1.81, extent -228.26,204.72 -204.81,228.34
3D body: height 21.81, standoff -1.81, extent 441.03,204.72 464.48,228.34
3D body: height 21.81, standoff -1.81, extent 401.66,204.72 425.11,228.34
3D body: height 21.81, standoff -1.81, extent 362.29,204.72 385.74,228.34
3D body: height 21.81, standoff -1.81, extent 322.92,204.72 346.37,228.34
3D body: height 21.81, standoff -1.81, extent 283.55,204.72 307,228.34
3D body: height 21.81, standoff -1.81, extent 244.18,204.72 267.63,228.34
3D body: height 21.81, standoff -1.81, extent 204.81,204.72 228.26,228.34
3D body: height 21.81, standoff -1.81, extent 165.44,204.72 188.89,228.34
3D body: height 21.81, standoff -1.81, extent 126.07,204.72 149.52,228.34
3D body: height 21.81, standoff -1.81, extent 559.14,204.72 582.59,228.34
3D body: height 21.81, standoff -1.81, extent 519.77,204.72 543.22,228.34
3D body: height 21.81, standoff -1.81, extent 480.4,204.72 503.85,228.34
3D body: height 21.81, standoff -1.81, extent -267.63,244.09 -244.18,267.71
3D body: height 21.81, standoff -1.81, extent -307,244.09 -283.55,267.71
3D body: height 21.81, standoff -1.81, extent -346.37,244.09 -322.92,267.71
3D body: height 21.81, standoff -1.81, extent -385.74,244.09 -362.29,267.71
3D body: height 21.81, standoff -1.81, extent -425.11,244.09 -401.66,267.71
3D body: height 21.81, standoff -1.81, extent -464.48,244.09 -441.03,267.71
3D body: height 21.81, standoff -1.81, extent -503.85,244.09 -480.4,267.71
3D body: height 21.81, standoff -1.81, extent -543.22,244.09 -519.77,267.71
3D body: height 21.81, standoff -1.81, extent -582.59,244.09 -559.14,267.71
3D body: height 21.81, standoff -1.81, extent 86.7,244.09 110.15,267.71
3D body: height 21.81, standoff -1.81, extent 47.33,244.09 70.78,267.71
3D body: height 21.81, standoff -1.81, extent 7.96,244.09 31.41,267.71
3D body: height 21.81, standoff -1.81, extent -31.41,244.09 -7.96,267.71
3D body: height 21.81, standoff -1.81, extent -70.78,244.09 -47.33,267.71
3D body: height 21.81, standoff -1.81, extent -110.15,244.09 -86.7,267.71
3D body: height 21.81, standoff -1.81, extent -149.52,244.09 -126.07,267.71
3D body: height 21.81, standoff -1.81, extent -188.89,244.09 -165.44,267.71
3D body: height 21.81, standoff -1.81, extent -228.26,244.09 -204.81,267.71
3D body: height 21.81, standoff -1.81, extent 441.03,244.09 464.48,267.71
3D body: height 21.81, standoff -1.81, extent 401.66,244.09 425.11,267.71
3D body: height 21.81, standoff -1.81, extent 362.29,244.09 385.74,267.71
3D body: height 21.81, standoff -1.81, extent 322.92,244.09 346.37,267.71
3D body: height 21.81, standoff -1.81, extent 283.55,244.09 307,267.71
3D body: height 21.81, standoff -1.81, extent 244.18,244.09 267.63,267.71
3D body: height 21.81, standoff -1.81, extent 204.81,244.09 228.26,267.71
3D body: height 21.81, standoff -1.81, extent 165.44,244.09 188.89,267.71
3D body: height 21.81, standoff -1.81, extent 126.07,244.09 149.52,267.71
3D body: height 21.81, standoff -1.81, extent 559.14,244.09 582.59,267.71
3D body: height 21.81, standoff -1.81, extent 519.77,244.09 543.22,267.71
3D body: height 21.81, standoff -1.81, extent 480.4,244.09 503.85,267.71
3D body: height 21.81, standoff -1.81, extent -267.63,283.46 -244.18,307.08
3D body: height 21.81, standoff -1.81, extent -307,283.46 -283.55,307.08
3D body: height 21.81, standoff -1.81, extent -346.37,283.46 -322.92,307.08
3D body: height 21.81, standoff -1.81, extent -385.74,283.46 -362.29,307.08
3D body: height 21.81, standoff -1.81, extent -425.11,283.46 -401.66,307.08
3D body: height 21.81, standoff -1.81, extent -464.48,283.46 -441.03,307.08
3D body: height 21.81, standoff -1.81, extent -503.85,283.46 -480.4,307.08
3D body: height 21.81, standoff -1.81, extent -543.22,283.46 -519.77,307.08
3D body: height 21.81, standoff -1.81, extent -582.59,283.46 -559.14,307.08
3D body: height 21.81, standoff -1.81, extent 86.7,283.46 110.15,307.08
3D body: height 21.81, standoff -1.81, extent 47.33,283.46 70.78,307.08
3D body: height 21.81, standoff -1.81, extent 7.96,283.46 31.41,307.08
3D body: height 21.81, standoff -1.81, extent -31.41,283.46 -7.96,307.08
3D body: height 21.81, standoff -1.81, extent -70.78,283.46 -47.33,307.08
3D body: height 21.81, standoff -1.81, extent -110.15,283.46 -86.7,307.08
3D body: height 21.81, standoff -1.81, extent -149.52,283.46 -126.07,307.08
3D body: height 21.81, standoff -1.81, extent -188.89,283.46 -165.44,307.08
3D body: height 21.81, standoff -1.81, extent -228.26,283.46 -204.81,307.08
3D body: height 21.81, standoff -1.81, extent 441.03,283.46 464.48,307.08
3D body: height 21.81, standoff -1.81, extent 401.66,283.46 425.11,307.08
3D body: height 21.81, standoff -1.81, extent 362.29,283.46 385.74,307.08
3D body: height 21.81, standoff -1.81, extent 322.92,283.46 346.37,307.08
3D body: height 21.81, standoff -1.81, extent 283.55,283.46 307,307.08
3D body: height 21.81, standoff -1.81, extent 244.18,283.46 267.63,307.08
3D body: height 21.81, standoff -1.81, extent 204.81,283.46 228.26,307.08
3D body: height 21.81, standoff -1.81, extent 165.44,283.46 188.89,307.08
3D body: height 21.81, standoff -1.81, extent 126.07,283.46 149.52,307.08
3D body: height 21.81, standoff -1.81, extent 559.14,283.46 582.59,307.08
3D body: height 21.81, standoff -1.81, extent 519.77,283.46 543.22,307.08
3D body: height 21.81, standoff -1.81, extent 480.4,283.46 503.85,307.08
3D body: height 21.81, standoff -1.81, extent -267.63,322.83 -244.18,346.45
3D body: height 21.81, standoff -1.81, extent -307,322.83 -283.55,346.45
3D body: height 21.81, standoff -1.81, extent -346.37,322.83 -322.92,346.45
3D body: height 21.81, standoff -1.81, extent -385.74,322.83 -362.29,346.45
3D body: height 21.81, standoff -1.81, extent -425.11,322.83 -401.66,346.45
3D body: height 21.81, standoff -1.81, extent -464.48,322.83 -441.03,346.45
3D body: height 21.81, standoff -1.81, extent -503.85,322.83 -480.4,346.45
3D body: height 21.81, standoff -1.81, extent -543.22,322.83 -519.77,346.45
3D body: height 21.81, standoff -1.81, extent -582.59,322.83 -559.14,346.45
3D body: height 21.81, standoff -1.81, extent 86.7,322.83 110.15,346.45
3D body: height 21.81, standoff -1.81, extent 47.33,322.83 70.78,346.45
3D body: height 21.81, standoff -1.81, extent 7.96,322.83 31.41,346.45
3D body: height 21.81, standoff -1.81, extent -31.41,322.83 -7.96,346.45
3D body: height 21.81, standoff -1.81, extent -70.78,322.83 -47.33,346.45
3D body: height 21.81, standoff -1.81, extent -110.15,322.83 -86.7,346.45
3D body: height 21.81, standoff -1.81, extent -149.52,322.83 -126.07,346.45
3D body: height 21.81, standoff -1.81, extent -188.89,322.83 -165.44,346.45
3D body: height 21.81, standoff -1.81, extent -228.26,322.83 -204.81,346.45
3D body: height 21.81, standoff -1.81, extent 441.03,322.83 464.48,346.45
3D body: height 21.81, standoff -1.81, extent 401.66,322.83 425.11,346.45
3D body: height 21.81, standoff -1.81, extent 362.29,322.83 385.74,346.45
3D body: height 21.81, standoff -1.81, extent 322.92,322.83 346.37,346.45
3D body: height 21.81, standoff -1.81, extent 283.55,322.83 307,346.45
3D body: height 21.81, standoff -1.81, extent 244.18,322.83 267.63,346.45
3D body: height 21.81, standoff -1.81, extent 204.81,322.83 228.26,346.45
3D body: height 21.81, standoff -1.81, extent 165.44,322.83 188.89,346.45
3D body: height 21.81, standoff -1.81, extent 126.07,322.83 149.52,346.45
3D body: height 21.81, standoff -1.81, extent 559.14,322.83 582.59,346.45
3D body: height 21.81, standoff -1.81, extent 519.77,322.83 543.22,346.45
3D body: height 21.81, standoff -1.81, extent 480.4,322.83 503.85,346.45
3D body: height 21.81, standoff -1.81, extent -267.63,362.2 -244.18,385.82
3D body: height 21.81, standoff -1.81, extent -307,362.2 -283.55,385.82
3D body: height 21.81, standoff -1.81, extent -346.37,362.2 -322.92,385.82
3D body: height 21.81, standoff -1.81, extent -385.74,362.2 -362.29,385.82
3D body: height 21.81, standoff -1.81, extent -425.11,362.2 -401.66,385.82
3D body: height 21.81, standoff -1.81, extent -464.48,362.2 -441.03,385.82
3D body: height 21.81, standoff -1.81, extent -503.85,362.2 -480.4,385.82
3D body: height 21.81, standoff -1.81, extent -543.22,362.2 -519.77,385.82
3D body: height 21.81, standoff -1.81, extent -582.59,362.2 -559.14,385.82
3D body: height 21.81, standoff -1.81, extent 86.7,362.2 110.15,385.82
3D body: height 21.81, standoff -1.81, extent 47.33,362.2 70.78,385.82
3D body: height 21.81, standoff -1.81, extent 7.96,362.2 31.41,385.82
3D body: height 21.81, standoff -1.81, extent -31.41,362.2 -7.96,385.82
3D body: height 21.81, standoff -1.81, extent -70.78,362.2 -47.33,385.82
3D body: height 21.81, standoff -1.81, extent -110.15,362.2 -86.7,385.82
3D body: height 21.81, standoff -1.81, extent -149.52,362.2 -126.07,385.82
3D body: height 21.81, standoff -1.81, extent -188.89,362.2 -165.44,385.82
3D body: height 21.81, standoff -1.81, extent -228.26,362.2 -204.81,385.82
3D body: height 21.81, standoff -1.81, extent 441.03,362.2 464.48,385.82
3D body: height 21.81, standoff -1.81, extent 401.66,362.2 425.11,385.82
3D body: height 21.81, standoff -1.81, extent 362.29,362.2 385.74,385.82
3D body: height 21.81, standoff -1.81, extent 322.92,362.2 346.37,385.82
3D body: height 21.81, standoff -1.81, extent 283.55,362.2 307,385.82
3D body: height 21.81, standoff -1.81, extent 244.18,362.2 267.63,385.82
3D body: height 21.81, standoff -1.81, extent 204.81,362.2 228.26,385.82
3D body: height 21.81, standoff -1.81, extent 165.44,362.2 188.89,385.82
3D body: height 21.81, standoff -1.81, extent 126.07,362.2 149.52,385.82
3D body: height 21.81, standoff -1.81, extent 559.14,362.2 582.59,385.82
3D body: height 21.81, standoff -1.81, extent 519.77,362.2 543.22,385.82
3D body: height 21.81, standoff -1.81, extent 480.4,362.2 503.85,385.82
3D body: height 21.81, standoff -1.81, extent -267.63,401.57 -244.18,425.19
3D body: height 21.81, standoff -1.81, extent -307,401.57 -283.55,425.19
3D body: height 21.81, standoff -1.81, extent -346.37,401.57 -322.92,425.19
3D body: height 21.81, standoff -1.81, extent -385.74,401.57 -362.29,425.19
3D body: height 21.81, standoff -1.81, extent -425.11,401.57 -401.66,425.19
3D body: height 21.81, standoff -1.81, extent -464.48,401.57 -441.03,425.19
3D body: height 21.81, standoff -1.81, extent -503.85,401.57 -480.4,425.19
3D body: height 21.81, standoff -1.81, extent -543.22,401.57 -519.77,425.19
3D body: height 21.81, standoff -1.81, extent -582.59,401.57 -559.14,425.19
3D body: height 21.81, standoff -1.81, extent 86.7,401.57 110.15,425.19
3D body: height 21.81, standoff -1.81, extent 47.33,401.57 70.78,425.19
3D body: height 21.81, standoff -1.81, extent 7.96,401.57 31.41,425.19
3D body: height 21.81, standoff -1.81, extent -31.41,401.57 -7.96,425.19
3D body: height 21.81, standoff -1.81, extent -70.78,401.57 -47.33,425.19
3D body: height 21.81, standoff -1.81, extent -110.15,401.57 -86.7,425.19
3D body: height 21.81, standoff -1.81, extent -149.52,401.57 -126.07,425.19
3D body: height 21.81, standoff -1.81, extent -188.89,401.57 -165.44,425.19
3D body: height 21.81, standoff -1.81, extent -228.26,401.57 -204.81,425.19
3D body: height 21.81, standoff -1.81, extent 441.03,401.57 464.48,425.19
3D body: height 21.81, standoff -1.81, extent 401.66,401.57 425.11,425.19
3D body: height 21.81, standoff -1.81, extent 362.29,401.57 385.74,425.19
3D body: height 21.81, standoff -1.81, extent 322.92,401.57 346.37,425.19
3D body: height 21.81, standoff -1.81, extent 283.55,401.57 307,425.19
3D body: height 21.81, standoff -1.81, extent 244.18,401.57 267.63,425.19
3D body: height 21.81, standoff -1.81, extent 204.81,401.57 228.26,425.19
3D body: height 21.81, standoff -1.81, extent 165.44,401.57 188.89,425.19
3D body: height 21.81, standoff -1.81, extent 126.07,401.57 149.52,425.19
3D body: height 21.81, standoff -1.81, extent 559.14,401.57 582.59,425.19
3D body: height 21.81, standoff -1.81, extent 519.77,401.57 543.22,425.19
3D body: height 21.81, standoff -1.81, extent 480.4,401.57 503.85,425.19
3D body: height 21.81, standoff -1.81, extent -267.63,440.94 -244.18,464.56
3D body: height 21.81, standoff -1.81, extent -307,440.94 -283.55,464.56
3D body: height 21.81, standoff -1.81, extent -346.37,440.94 -322.92,464.56
3D body: height 21.81, standoff -1.81, extent -385.74,440.94 -362.29,464.56
3D body: height 21.81, standoff -1.81, extent -425.11,440.94 -401.66,464.56
3D body: height 21.81, standoff -1.81, extent -464.48,440.94 -441.03,464.56
3D body: height 21.81, standoff -1.81, extent -503.85,440.94 -480.4,464.56
3D body: height 21.81, standoff -1.81, extent -543.22,440.94 -519.77,464.56
3D body: height 21.81, standoff -1.81, extent -582.59,440.94 -559.14,464.56
3D body: height 21.81, standoff -1.81, extent 86.7,440.94 110.15,464.56
3D body: height 21.81, standoff -1.81, extent 47.33,440.94 70.78,464.56
3D body: height 21.81, standoff -1.81, extent 7.96,440.94 31.41,464.56
3D body: height 21.81, standoff -1.81, extent -31.41,440.94 -7.96,464.56
3D body: height 21.81, standoff -1.81, extent -70.78,440.94 -47.33,464.56
3D body: height 21.81, standoff -1.81, extent -110.15,440.94 -86.7,464.56
3D body: height 21.81, standoff -1.81, extent -149.52,440.94 -126.07,464.56
3D body: height 21.81, standoff -1.81, extent -188.89,440.94 -165.44,464.56
3D body: height 21.81, standoff -1.81, extent -228.26,440.94 -204.81,464.56
3D body: height 21.81, standoff -1.81, extent 441.03,440.94 464.48,464.56
3D body: height 21.81, standoff -1.81, extent 401.66,440.94 425.11,464.56
3D body: height 21.81, standoff -1.81, extent 362.29,440.94 385.74,464.56
3D body: height 21.81, standoff -1.81, extent 322.92,440.94 346.37,464.56
3D body: height 21.81, standoff -1.81, extent 283.55,440.94 307,464.56
3D body: height 21.81, standoff -1.81, extent 244.18,440.94 267.63,464.56
3D body: height 21.81, standoff -1.81, extent 204.81,440.94 228.26,464.56
3D body: height 21.81, standoff -1.81, extent 165.44,440.94 188.89,464.56
3D body: height 21.81, standoff -1.81, extent 126.07,440.94 149.52,464.56
3D body: height 21.81, standoff -1.81, extent 559.14,440.94 582.59,464.56
3D body: height 21.81, standoff -1.81, extent 519.77,440.94 543.22,464.56
3D body: height 21.81, standoff -1.81, extent 480.4,440.94 503.85,464.56
3D body: height 21.81, standoff -1.81, extent -267.63,480.31 -244.18,503.93
3D body: height 21.81, standoff -1.81, extent -307,480.31 -283.55,503.93
3D body: height 21.81, standoff -1.81, extent -346.37,480.31 -322.92,503.93
3D body: height 21.81, standoff -1.81, extent -385.74,480.31 -362.29,503.93
3D body: height 21.81, standoff -1.81, extent -425.11,480.31 -401.66,503.93
3D body: height 21.81, standoff -1.81, extent -464.48,480.31 -441.03,503.93
3D body: height 21.81, standoff -1.81, extent -503.85,480.31 -480.4,503.93
3D body: height 21.81, standoff -1.81, extent -543.22,480.31 -519.77,503.93
3D body: height 21.81, standoff -1.81, extent -582.59,480.31 -559.14,503.93
3D body: height 21.81, standoff -1.81, extent 86.7,480.31 110.15,503.93
3D body: height 21.81, standoff -1.81, extent 47.33,480.31 70.78,503.93
3D body: height 21.81, standoff -1.81, extent 7.96,480.31 31.41,503.93
3D body: height 21.81, standoff -1.81, extent -31.41,480.31 -7.96,503.93
3D body: height 21.81, standoff -1.81, extent -70.78,480.31 -47.33,503.93
3D body: height 21.81, standoff -1.81, extent -110.15,480.31 -86.7,503.93
3D body: height 21.81, standoff -1.81, extent -149.52,480.31 -126.07,503.93
3D body: height 21.81, standoff -1.81, extent -188.89,480.31 -165.44,503.93
3D body: height 21.81, standoff -1.81, extent -228.26,480.31 -204.81,503.93
3D body: height 21.81, standoff -1.81, extent 441.03,480.31 464.48,503.93
3D body: height 21.81, standoff -1.81, extent 401.66,480.31 425.11,503.93
3D body: height 21.81, standoff -1.81, extent 362.29,480.31 385.74,503.93
3D body: height 21.81, standoff -1.81, extent 322.92,480.31 346.37,503.93
3D body: height 21.81, standoff -1.81, extent 283.55,480.31 307,503.93
3D body: height 21.81, standoff -1.81, extent 244.18,480.31 267.63,503.93
3D body: height 21.81, standoff -1.81, extent 204.81,480.31 228.26,503.93
3D body: height 21.81, standoff -1.81, extent 165.44,480.31 188.89,503.93
3D body: height 21.81, standoff -1.81, extent 126.07,480.31 149.52,503.93
3D body: height 21.81, standoff -1.81, extent 559.14,480.31 582.59,503.93
3D body: height 21.81, standoff -1.81, extent 519.77,480.31 543.22,503.93
3D body: height 21.81, standoff -1.81, extent 480.4,480.31 503.85,503.93
3D body: height 21.81, standoff -1.81, extent 480.4,519.68 503.85,543.3
3D body: height 21.81, standoff -1.81, extent 519.77,519.68 543.22,543.3
3D body: height 21.81, standoff -1.81, extent 559.14,519.68 582.59,543.3
3D body: height 21.81, standoff -1.81, extent 126.07,519.68 149.52,543.3
3D body: height 21.81, standoff -1.81, extent 165.44,519.68 188.89,543.3
3D body: height 21.81, standoff -1.81, extent 204.81,519.68 228.26,543.3
3D body: height 21.81, standoff -1.81, extent 244.18,519.68 267.63,543.3
3D body: height 21.81, standoff -1.81, extent 283.55,519.68 307,543.3
3D body: height 21.81, standoff -1.81, extent 322.92,519.68 346.37,543.3
3D body: height 21.81, standoff -1.81, extent 362.29,519.68 385.74,543.3
3D body: height 21.81, standoff -1.81, extent 401.66,519.68 425.11,543.3
3D body: height 21.81, standoff -1.81, extent 441.03,519.68 464.48,543.3
3D body: height 21.81, standoff -1.81, extent -228.26,519.68 -204.81,543.3
3D body: height 21.81, standoff -1.81, extent -188.89,519.68 -165.44,543.3
3D body: height 21.81, standoff -1.81, extent -149.52,519.68 -126.07,543.3
3D body: height 21.81, standoff -1.81, extent -110.15,519.68 -86.7,543.3
3D body: height 21.81, standoff -1.81, extent -70.78,519.68 -47.33,543.3
3D body: height 21.81, standoff -1.81, extent -31.41,519.68 -7.96,543.3
3D body: height 21.81, standoff -1.81, extent 7.96,519.68 31.41,543.3
3D body: height 21.81, standoff -1.81, extent 47.33,519.68 70.78,543.3
3D body: height 21.81, standoff -1.81, extent 86.7,519.68 110.15,543.3
3D body: height 21.81, standoff -1.81, extent -582.59,519.68 -559.14,543.3
3D body: height 21.81, standoff -1.81, extent -543.22,519.68 -519.77,543.3
3D body: height 21.81, standoff -1.81, extent -503.85,519.68 -480.4,543.3
3D body: height 21.81, standoff -1.81, extent -464.48,519.68 -441.03,543.3
3D body: height 21.81, standoff -1.81, extent -425.11,519.68 -401.66,543.3
3D body: height 21.81, standoff -1.81, extent -385.74,519.68 -362.29,543.3
3D body: height 21.81, standoff -1.81, extent -346.37,519.68 -322.92,543.3
3D body: height 21.81, standoff -1.81, extent -307,519.68 -283.55,543.3
3D body: height 21.81, standoff -1.81, extent -267.63,519.68 -244.18,543.3
3D body: height 21.81, standoff -1.81, extent -543.22,559.06 -519.77,582.68
3D body: height 21.81, standoff -1.81, extent -188.89,559.06 -165.44,582.68
3D body: height 21.81, standoff -1.81, extent -228.26,559.06 -204.81,582.68
3D body: height 21.81, standoff -1.81, extent -267.63,559.06 -244.18,582.68
3D body: height 21.81, standoff -1.81, extent -307,559.06 -283.55,582.68
3D body: height 21.81, standoff -1.81, extent -346.37,559.06 -322.92,582.68
3D body: height 21.81, standoff -1.81, extent -385.74,559.06 -362.29,582.68
3D body: height 21.81, standoff -1.81, extent -425.11,559.06 -401.66,582.68
3D body: height 21.81, standoff -1.81, extent -464.48,559.06 -441.03,582.68
3D body: height 21.81, standoff -1.81, extent -503.85,559.06 -480.4,582.68
3D body: height 21.81, standoff -1.81, extent 165.44,559.06 188.89,582.68
3D body: height 21.81, standoff -1.81, extent 126.07,559.06 149.52,582.68
3D body: height 21.81, standoff -1.81, extent 86.7,559.06 110.15,582.68
3D body: height 21.81, standoff -1.81, extent 47.33,559.06 70.78,582.68
3D body: height 21.81, standoff -1.81, extent 7.96,559.06 31.41,582.68
3D body: height 21.81, standoff -1.81, extent -31.41,559.06 -7.96,582.68
3D body: height 21.81, standoff -1.81, extent -70.78,559.06 -47.33,582.68
3D body: height 21.81, standoff -1.81, extent -110.15,559.06 -86.7,582.68
3D body: height 21.81, standoff -1.81, extent -149.52,559.06 -126.07,582.68
3D body: height 21.81, standoff -1.81, extent 204.81,559.06 228.26,582.68
3D body: height 21.81, standoff -1.81, extent 244.18,559.06 267.63,582.68
3D body: height 21.81, standoff -1.81, extent 283.55,559.06 307,582.68
3D body: height 21.81, standoff -1.81, extent 322.92,559.06 346.37,582.68
3D body: height 21.81, standoff -1.81, extent 362.29,559.06 385.74,582.68
3D body: height 21.81, standoff -1.81, extent 401.66,559.06 425.11,582.68
3D body: height 21.81, standoff -1.81, extent 441.03,559.06 464.48,582.68
3D body: height 21.81, standoff -1.81, extent 480.4,559.06 503.85,582.68
3D body: height 21.81, standoff -1.81, extent 519.77,559.06 543.22,582.68
3D body: height 39.37, standoff 19.68, extent -610.24,-610.24 610.24,610.24
3D body: height 72.83, standoff 31.5, extent -582.59,-582.68 582.59,582.68